# Altium schematic symbol library radxa_cm3s_io_board_v1510_Library.SchLib: 96 symbols (part 1 of 2)
Pins are listed as number, name and electrical type; pins without a type are passive.

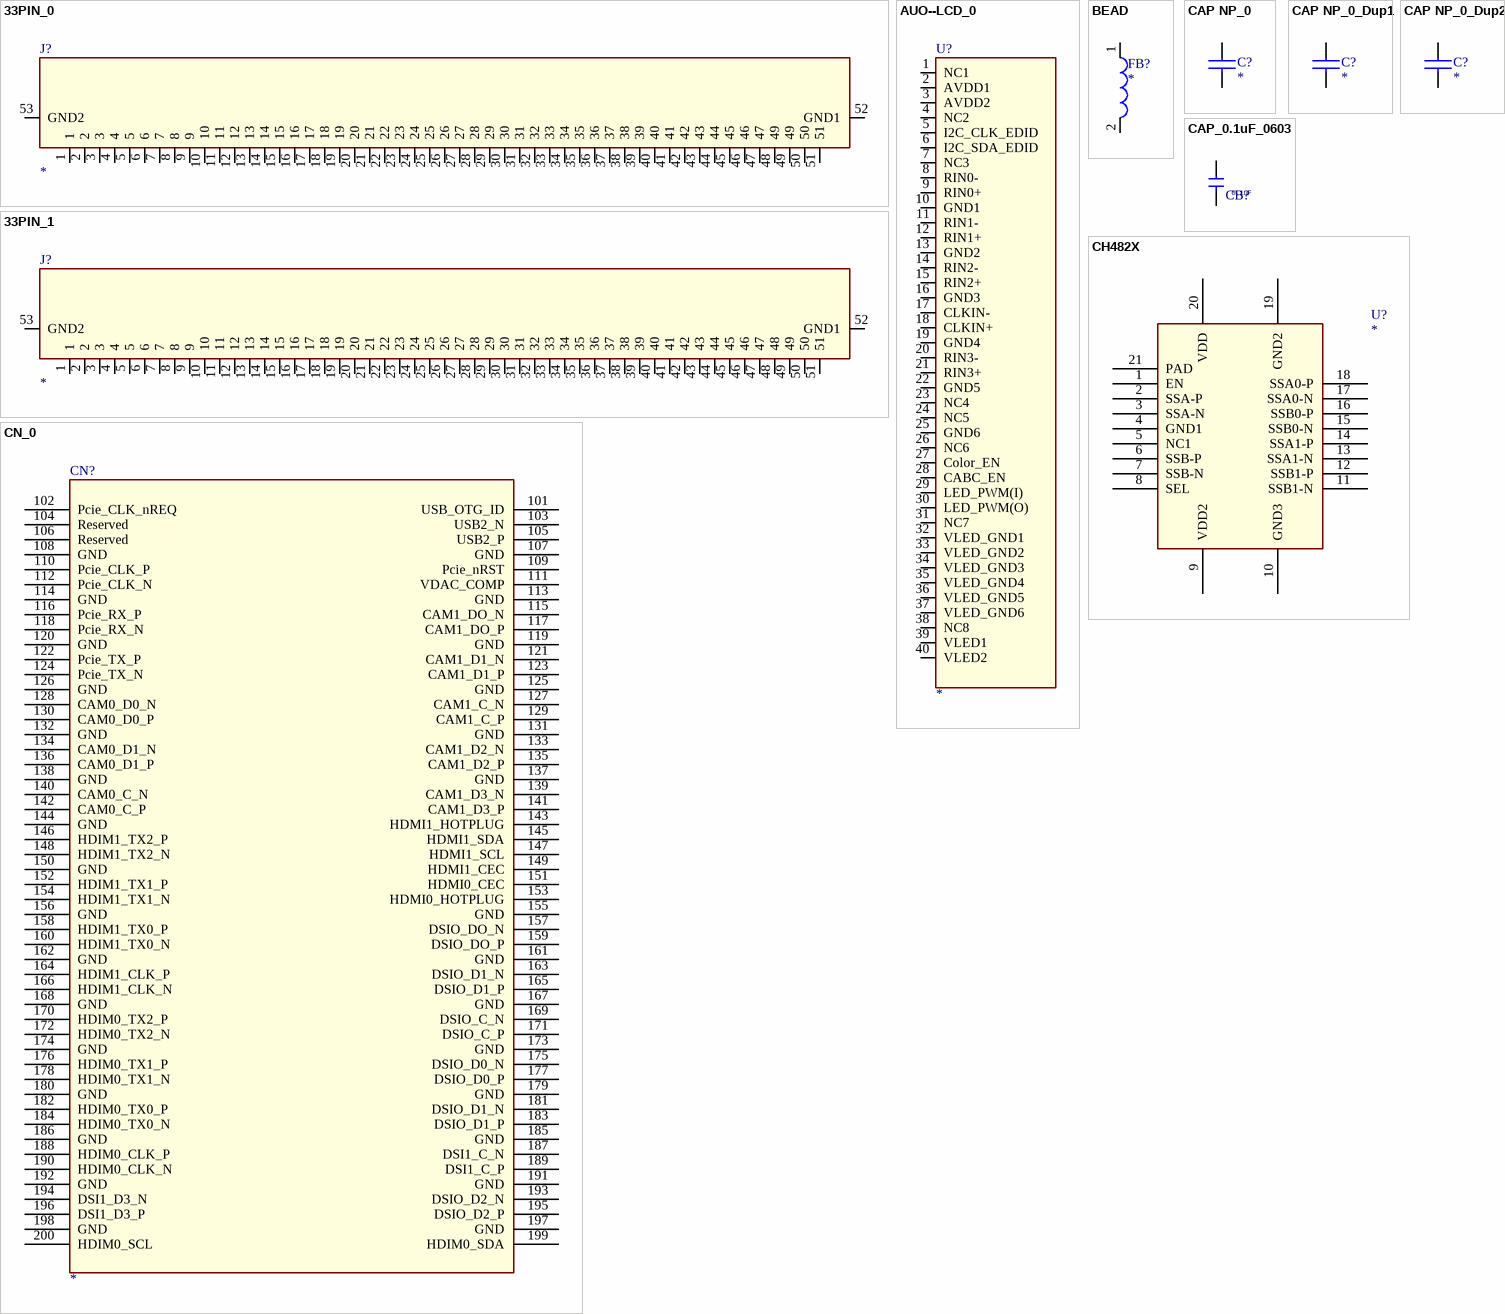
[diagram p0: symbols 33PIN_0 to CN_0]

## 33PIN_0
designator J?
footprint 33PIN
pins: 1, 2, 3, 4, 5, 6, 7, 8, 9, 10, 11, 12, 13, 14, 15, 16, 17, 18, 19, 20, 21, 22, 23, 24, 25, 26, 27, 28, 29, 30, 31, 32, 33, 34, 35, 36, 37, 38, 39, 40, 41, 42, 43, 44, 45, 46, 47, 48 49, 49, 50, 51, 52 GND1, 53 GND2

## 33PIN_1
designator J?
footprint 33PIN
pins: 1, 2, 3, 4, 5, 6, 7, 8, 9, 10, 11, 12, 13, 14, 15, 16, 17, 18, 19, 20, 21, 22, 23, 24, 25, 26, 27, 28, 29, 30, 31, 32, 33, 34, 35, 36, 37, 38, 39, 40, 41, 42, 43, 44, 45, 46, 47, 48, 49, 50, 51, 52 GND1, 53 GND2

## AUO--LCD_0
designator U?
pins: 1 NC1, 2 AVDD1, 3 AVDD2, 4 NC2, 5 I2C_CLK_EDID, 6 I2C_SDA_EDID, 7 NC3, 8 RIN0-, 9 RIN0+, 10 GND1, 11 RIN1-, 12 RIN1+, 13 GND2, 14 RIN2-, 15 RIN2+, 16 GND3, 17 CLKIN-, 18 CLKIN+, 19 GND4, 20 RIN3-, 21 RIN3+, 22 GND5, 23 NC4, 24 NC5, 25 GND6, 26 NC6, 27 Color_EN, 28 CABC_EN, 29 LED_PWM(I), 30 LED_PWM(O), 31 NC7, 32 VLED_GND1, 33 VLED_GND2, 34 VLED_GND3, 35 VLED_GND4, 36 VLED_GND5, 37 VLED_GND6, 38 NC8, 39 VLED1, 40 VLED2

## BEAD
designator FB?
pins: 1, 2

## CAP NP_0
designator C?
pins: 1, 2

## CAP NP_0_Dup1
designator C?
pins: 1, 2

## CAP NP_0_Dup2
designator C?
pins: 1, 2

## CAP_0.1uF_0603
designator CB?, comment 0.1uF
footprint C0603
pins: 1, 2

## CH482X
designator U?
footprint CH482X
pins: 1 EN, 2 SSA-P, 3 SSA-N, 4 GND1, 5 NC1, 6 SSB-P, 7 SSB-N, 8 SEL, 9 VDD2, 10 GND3, 11 SSB1-N, 12 SSB1-P, 13 SSA1-N, 14 SSA1-P, 15 SSB0-N, 16 SSB0-P, 17 SSA0-N, 18 SSA0-P, 19 GND2, 20 VDD, 21 PAD

## CN_0
designator CN?
pins: 101 USB_OTG_ID, 102 Pcie_CLK_nREQ, 103 USB2_N, 104 Reserved, 105 USB2_P, 106 Reserved, 107 GND, 108 GND, 109 Pcie_nRST, 110 Pcie_CLK_P, 111 VDAC_COMP, 112 Pcie_CLK_N, 113 GND, 114 GND, 115 CAM1_DO_N, 116 Pcie_RX_P, 117 CAM1_DO_P, 118 Pcie_RX_N, 119 GND, 120 GND, 121 CAM1_D1_N, 122 Pcie_TX_P, 123 CAM1_D1_P, 124 Pcie_TX_N, 125 GND, 126 GND, 127 CAM1_C_N, 128 CAM0_D0_N, 129 CAM1_C_P, 130 CAM0_D0_P, 131 GND, 132 GND, 133 CAM1_D2_N, 134 CAM0_D1_N, 135 CAM1_D2_P, 136 CAM0_D1_P, 137 GND, 138 GND, 139 CAM1_D3_N, 140 CAM0_C_N, 141 CAM1_D3_P, 142 CAM0_C_P, 143 HDMI1_HOTPLUG, 144 GND, 145 HDMI1_SDA, 146 HDIM1_TX2_P, 147 HDMI1_SCL, 148 HDIM1_TX2_N, 149 HDMI1_CEC, 150 GND, 151 HDMI0_CEC, 152 HDIM1_TX1_P, 153 HDMI0_HOTPLUG, 154 HDIM1_TX1_N, 155 GND, 156 GND, 157 DSIO_DO_N, 158 HDIM1_TX0_P, 159 DSIO_DO_P, 160 HDIM1_TX0_N, 161 GND, 162 GND, 163 DSIO_D1_N, 164 HDIM1_CLK_P, 165 DSIO_D1_P, 166 HDIM1_CLK_N, 167 GND, 168 GND, 169 DSIO_C_N, 170 HDIM0_TX2_P, 171 DSIO_C_P, 172 HDIM0_TX2_N, 173 GND, 174 GND, 175 DSIO_D0_N, 176 HDIM0_TX1_P, 177 DSIO_D0_P, 178 HDIM0_TX1_N, 179 GND, 180 GND, 181 DSIO_D1_N, 182 HDIM0_TX0_P, 183 DSIO_D1_P, 184 HDIM0_TX0_N, 185 GND, 186 GND, 187 DSI1_C_N, 188 HDIM0_CLK_P, 189 DSI1_C_P, 190 HDIM0_CLK_N, 191 GND, 192 GND, 193 DSIO_D2_N, 194 DSI1_D3_N, 195 DSIO_D2_P, 196 DSI1_D3_P, 197 GND, 198 GND, 199 HDIM0_SDA, 200 HDIM0_SCL

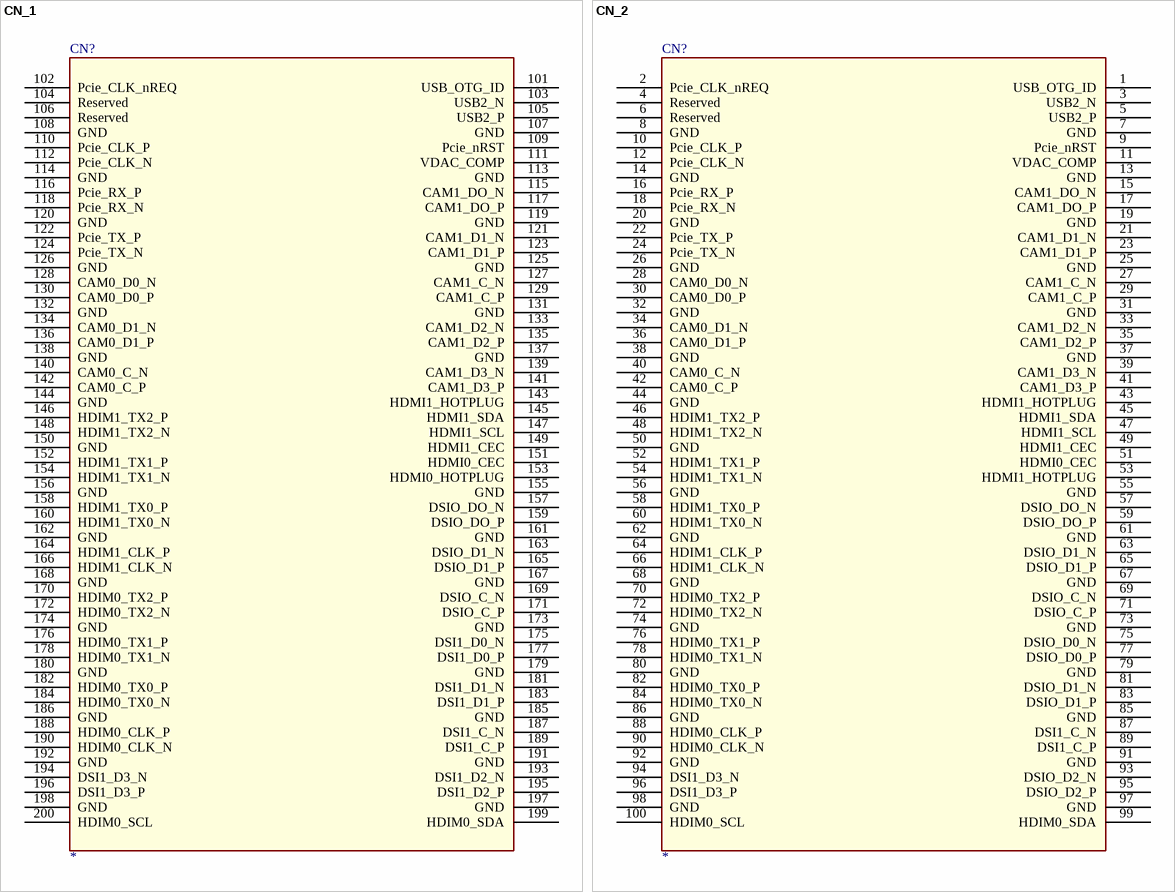
[diagram p1: symbols CN_1 to CN_2]

## CN_1
designator CN?
pins: 101 USB_OTG_ID, 102 Pcie_CLK_nREQ, 103 USB2_N, 104 Reserved, 105 USB2_P, 106 Reserved, 107 GND, 108 GND, 109 Pcie_nRST, 110 Pcie_CLK_P, 111 VDAC_COMP, 112 Pcie_CLK_N, 113 GND, 114 GND, 115 CAM1_DO_N, 116 Pcie_RX_P, 117 CAM1_DO_P, 118 Pcie_RX_N, 119 GND, 120 GND, 121 CAM1_D1_N, 122 Pcie_TX_P, 123 CAM1_D1_P, 124 Pcie_TX_N, 125 GND, 126 GND, 127 CAM1_C_N, 128 CAM0_D0_N, 129 CAM1_C_P, 130 CAM0_D0_P, 131 GND, 132 GND, 133 CAM1_D2_N, 134 CAM0_D1_N, 135 CAM1_D2_P, 136 CAM0_D1_P, 137 GND, 138 GND, 139 CAM1_D3_N, 140 CAM0_C_N, 141 CAM1_D3_P, 142 CAM0_C_P, 143 HDMI1_HOTPLUG, 144 GND, 145 HDMI1_SDA, 146 HDIM1_TX2_P, 147 HDMI1_SCL, 148 HDIM1_TX2_N, 149 HDMI1_CEC, 150 GND, 151 HDMI0_CEC, 152 HDIM1_TX1_P, 153 HDMI0_HOTPLUG, 154 HDIM1_TX1_N, 155 GND, 156 GND, 157 DSIO_DO_N, 158 HDIM1_TX0_P, 159 DSIO_DO_P, 160 HDIM1_TX0_N, 161 GND, 162 GND, 163 DSIO_D1_N, 164 HDIM1_CLK_P, 165 DSIO_D1_P, 166 HDIM1_CLK_N, 167 GND, 168 GND, 169 DSIO_C_N, 170 HDIM0_TX2_P, 171 DSIO_C_P, 172 HDIM0_TX2_N, 173 GND, 174 GND, 175 DSI1_D0_N, 176 HDIM0_TX1_P, 177 DSI1_D0_P, 178 HDIM0_TX1_N, 179 GND, 180 GND, 181 DSI1_D1_N, 182 HDIM0_TX0_P, 183 DSI1_D1_P, 184 HDIM0_TX0_N, 185 GND, 186 GND, 187 DSI1_C_N, 188 HDIM0_CLK_P, 189 DSI1_C_P, 190 HDIM0_CLK_N, 191 GND, 192 GND, 193 DSI1_D2_N, 194 DSI1_D3_N, 195 DSI1_D2_P, 196 DSI1_D3_P, 197 GND, 198 GND, 199 HDIM0_SDA, 200 HDIM0_SCL

## CN_2
designator CN?
pins: 1 USB_OTG_ID, 2 Pcie_CLK_nREQ, 3 USB2_N, 4 Reserved, 5 USB2_P, 6 Reserved, 7 GND, 8 GND, 9 Pcie_nRST, 10 Pcie_CLK_P, 11 VDAC_COMP, 12 Pcie_CLK_N, 13 GND, 14 GND, 15 CAM1_DO_N, 16 Pcie_RX_P, 17 CAM1_DO_P, 18 Pcie_RX_N, 19 GND, 20 GND, 21 CAM1_D1_N, 22 Pcie_TX_P, 23 CAM1_D1_P, 24 Pcie_TX_N, 25 GND, 26 GND, 27 CAM1_C_N, 28 CAM0_D0_N, 29 CAM1_C_P, 30 CAM0_D0_P, 31 GND, 32 GND, 33 CAM1_D2_N, 34 CAM0_D1_N, 35 CAM1_D2_P, 36 CAM0_D1_P, 37 GND, 38 GND, 39 CAM1_D3_N, 40 CAM0_C_N, 41 CAM1_D3_P, 42 CAM0_C_P, 43 HDMI1_HOTPLUG, 44 GND, 45 HDMI1_SDA, 46 HDIM1_TX2_P, 47 HDMI1_SCL, 48 HDIM1_TX2_N, 49 HDMI1_CEC, 50 GND, 51 HDMI0_CEC, 52 HDIM1_TX1_P, 53 HDMI1_HOTPLUG, 54 HDIM1_TX1_N, 55 GND, 56 GND, 57 DSIO_DO_N, 58 HDIM1_TX0_P, 59 DSIO_DO_P, 60 HDIM1_TX0_N, 61 GND, 62 GND, 63 DSIO_D1_N, 64 HDIM1_CLK_P, 65 DSIO_D1_P, 66 HDIM1_CLK_N, 67 GND, 68 GND, 69 DSIO_C_N, 70 HDIM0_TX2_P, 71 DSIO_C_P, 72 HDIM0_TX2_N, 73 GND, 74 GND, 75 DSIO_D0_N, 76 HDIM0_TX1_P, 77 DSIO_D0_P, 78 HDIM0_TX1_N, 79 GND, 80 GND, 81 DSIO_D1_N, 82 HDIM0_TX0_P, 83 DSIO_D1_P, 84 HDIM0_TX0_N, 85 GND, 86 GND, 87 DSI1_C_N, 88 HDIM0_CLK_P, 89 DSI1_C_P, 90 HDIM0_CLK_N, 91 GND, 92 GND, 93 DSIO_D2_N, 94 DSI1_D3_N, 95 DSIO_D2_P, 96 DSI1_D3_P, 97 GND, 98 GND, 99 HDIM0_SDA, 100 HDIM0_SCL

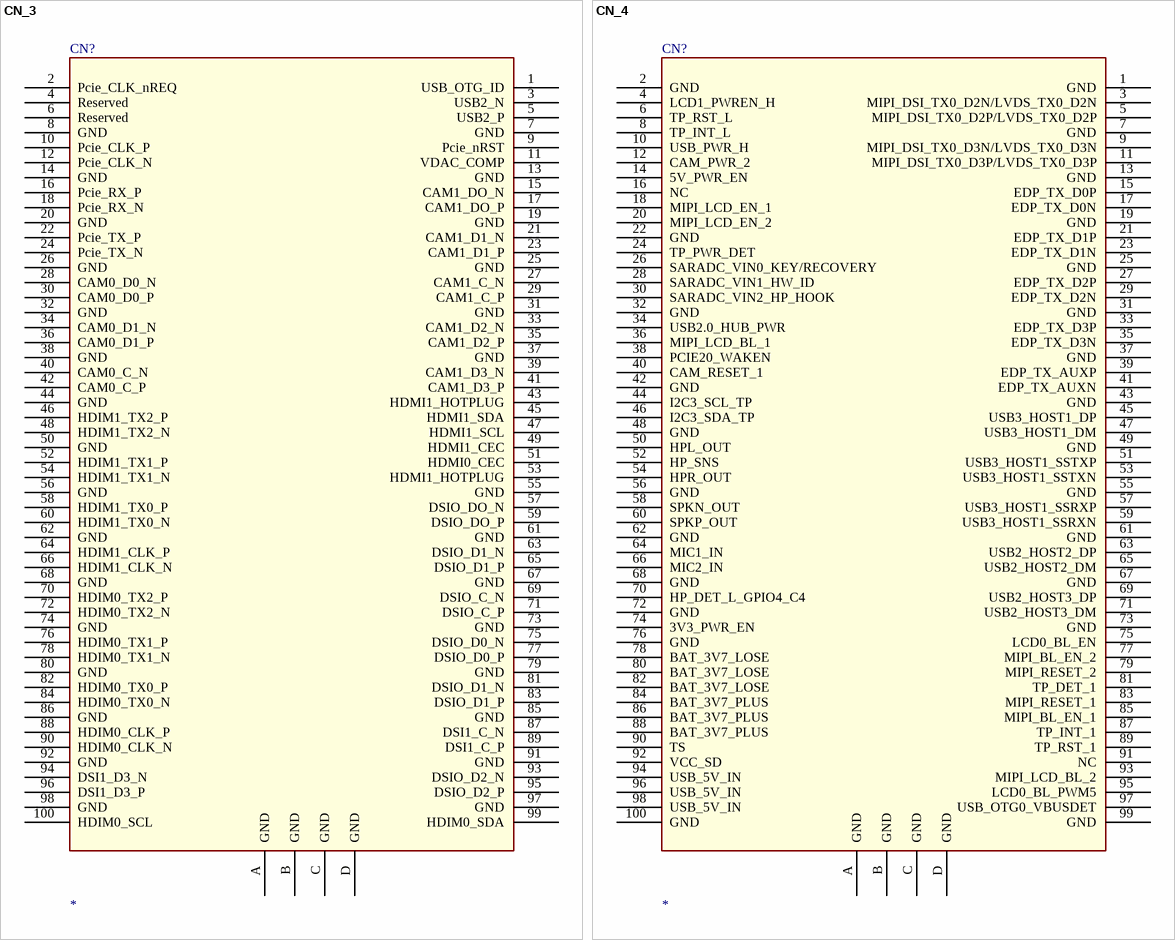
[diagram p2: symbols CN_3 to CN_4]

## CN_3
designator CN?
pins: 1 USB_OTG_ID, 2 Pcie_CLK_nREQ, 3 USB2_N, 4 Reserved, 5 USB2_P, 6 Reserved, 7 GND, 8 GND, 9 Pcie_nRST, 10 Pcie_CLK_P, 11 VDAC_COMP, 12 Pcie_CLK_N, 13 GND, 14 GND, 15 CAM1_DO_N, 16 Pcie_RX_P, 17 CAM1_DO_P, 18 Pcie_RX_N, 19 GND, 20 GND, 21 CAM1_D1_N, 22 Pcie_TX_P, 23 CAM1_D1_P, 24 Pcie_TX_N, 25 GND, 26 GND, 27 CAM1_C_N, 28 CAM0_D0_N, 29 CAM1_C_P, 30 CAM0_D0_P, 31 GND, 32 GND, 33 CAM1_D2_N, 34 CAM0_D1_N, 35 CAM1_D2_P, 36 CAM0_D1_P, 37 GND, 38 GND, 39 CAM1_D3_N, 40 CAM0_C_N, 41 CAM1_D3_P, 42 CAM0_C_P, 43 HDMI1_HOTPLUG, 44 GND, 45 HDMI1_SDA, 46 HDIM1_TX2_P, 47 HDMI1_SCL, 48 HDIM1_TX2_N, 49 HDMI1_CEC, 50 GND, 51 HDMI0_CEC, 52 HDIM1_TX1_P, 53 HDMI1_HOTPLUG, 54 HDIM1_TX1_N, 55 GND, 56 GND, 57 DSIO_DO_N, 58 HDIM1_TX0_P, 59 DSIO_DO_P, 60 HDIM1_TX0_N, 61 GND, 62 GND, 63 DSIO_D1_N, 64 HDIM1_CLK_P, 65 DSIO_D1_P, 66 HDIM1_CLK_N, 67 GND, 68 GND, 69 DSIO_C_N, 70 HDIM0_TX2_P, 71 DSIO_C_P, 72 HDIM0_TX2_N, 73 GND, 74 GND, 75 DSIO_D0_N, 76 HDIM0_TX1_P, 77 DSIO_D0_P, 78 HDIM0_TX1_N, 79 GND, 80 GND, 81 DSIO_D1_N, 82 HDIM0_TX0_P, 83 DSIO_D1_P, 84 HDIM0_TX0_N, 85 GND, 86 GND, 87 DSI1_C_N, 88 HDIM0_CLK_P, 89 DSI1_C_P, 90 HDIM0_CLK_N, 91 GND, 92 GND, 93 DSIO_D2_N, 94 DSI1_D3_N, 95 DSIO_D2_P, 96 DSI1_D3_P, 97 GND, 98 GND, 99 HDIM0_SDA, 100 HDIM0_SCL, A GND, B GND, C GND, D GND

## CN_4
designator CN?
pins: 1 GND, 2 GND, 3 MIPI_DSI_TX0_D2N/LVDS_TX0_D2N, 4 LCD1_PWREN_H, 5 MIPI_DSI_TX0_D2P/LVDS_TX0_D2P, 6 TP_RST_L, 7 GND, 8 TP_INT_L, 9 MIPI_DSI_TX0_D3N/LVDS_TX0_D3N, 10 USB_PWR_H, 11 MIPI_DSI_TX0_D3P/LVDS_TX0_D3P, 12 CAM_PWR_2, 13 GND, 14 5V_PWR_EN, 15 EDP_TX_D0P, 16 NC, 17 EDP_TX_D0N, 18 MIPI_LCD_EN_1, 19 GND, 20 MIPI_LCD_EN_2, 21 EDP_TX_D1P, 22 GND, 23 EDP_TX_D1N, 24 TP_PWR_DET, 25 GND, 26 SARADC_VIN0_KEY/RECOVERY, 27 EDP_TX_D2P, 28 SARADC_VIN1_HW_ID, 29 EDP_TX_D2N, 30 SARADC_VIN2_HP_HOOK, 31 GND, 32 GND, 33 EDP_TX_D3P, 34 USB2.0_HUB_PWR, 35 EDP_TX_D3N, 36 MIPI_LCD_BL_1, 37 GND, 38 PCIE20_WAKEN, 39 EDP_TX_AUXP, 40 CAM_RESET_1, 41 EDP_TX_AUXN, 42 GND, 43 GND, 44 I2C3_SCL_TP, 45 USB3_HOST1_DP, 46 I2C3_SDA_TP, 47 USB3_HOST1_DM, 48 GND, 49 GND, 50 HPL_OUT, 51 USB3_HOST1_SSTXP, 52 HP_SNS, 53 USB3_HOST1_SSTXN, 54 HPR_OUT, 55 GND, 56 GND, 57 USB3_HOST1_SSRXP, 58 SPKN_OUT, 59 USB3_HOST1_SSRXN, 60 SPKP_OUT, 61 GND, 62 GND, 63 USB2_HOST2_DP, 64 MIC1_IN, 65 USB2_HOST2_DM, 66 MIC2_IN, 67 GND, 68 GND, 69 USB2_HOST3_DP, 70 HP_DET_L_GPIO4_C4, 71 USB2_HOST3_DM, 72 GND, 73 GND, 74 3V3_PWR_EN, 75 LCD0_BL_EN, 76 GND, 77 MIPI_BL_EN_2, 78 BAT_3V7_LOSE, 79 MIPI_RESET_2, 80 BAT_3V7_LOSE, 81 TP_DET_1, 82 BAT_3V7_LOSE, 83 MIPI_RESET_1, 84 BAT_3V7_PLUS, 85 MIPI_BL_EN_1, 86 BAT_3V7_PLUS, 87 TP_INT_1, 88 BAT_3V7_PLUS, 89 TP_RST_1, 90 TS, 91 NC, 92 VCC_SD, 93 MIPI_LCD_BL_2, 94 USB_5V_IN, 95 LCD0_BL_PWM5, 96 USB_5V_IN, 97 USB_OTG0_VBUSDET, 98 USB_5V_IN, 99 GND, 100 GND, A GND, B GND, C GND, D GND

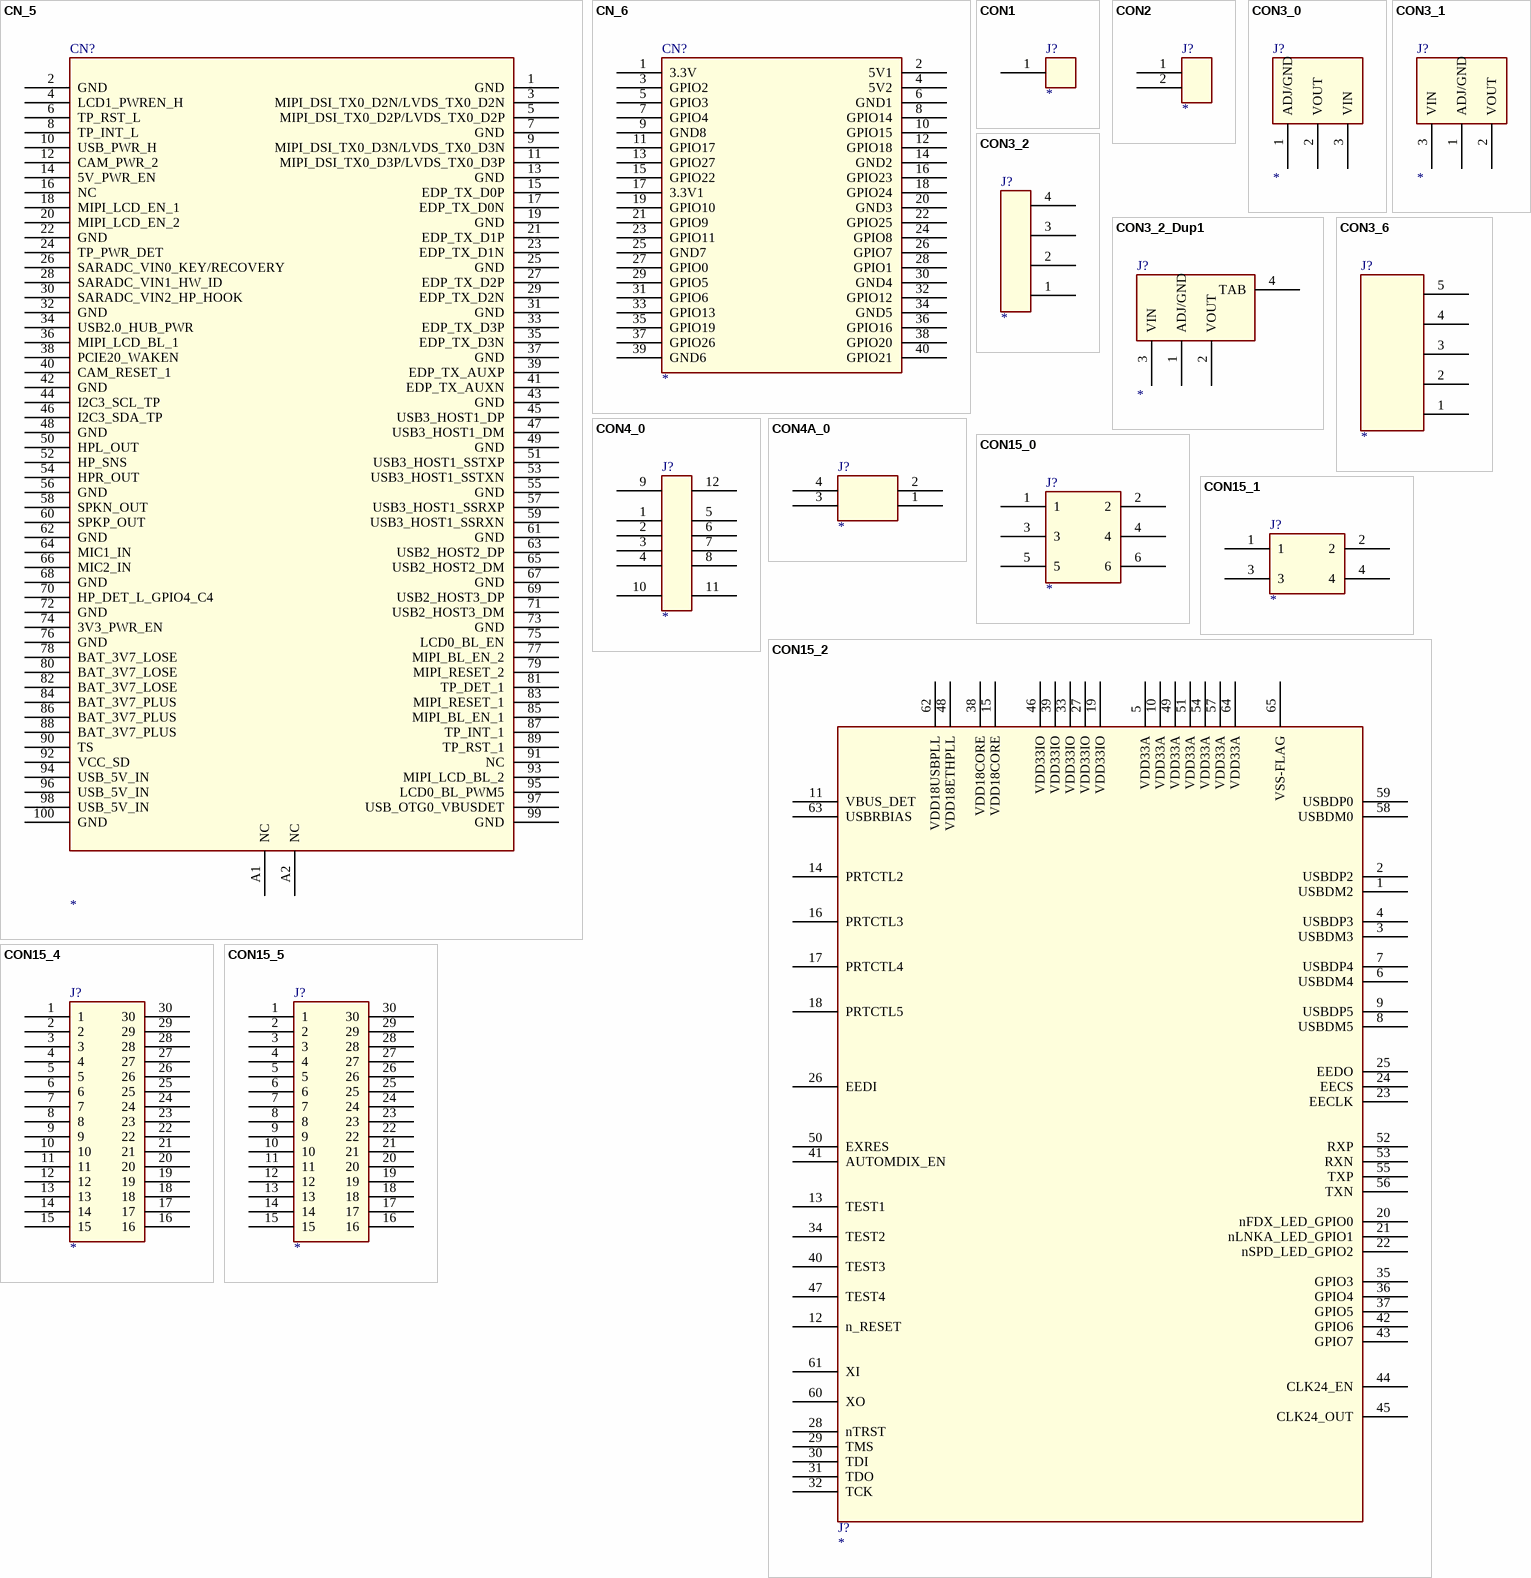
[diagram p3: symbols CN_5 to CON15_5]

## CN_5
designator CN?
pins: 1 GND, 2 GND, 3 MIPI_DSI_TX0_D2N/LVDS_TX0_D2N, 4 LCD1_PWREN_H, 5 MIPI_DSI_TX0_D2P/LVDS_TX0_D2P, 6 TP_RST_L, 7 GND, 8 TP_INT_L, 9 MIPI_DSI_TX0_D3N/LVDS_TX0_D3N, 10 USB_PWR_H, 11 MIPI_DSI_TX0_D3P/LVDS_TX0_D3P, 12 CAM_PWR_2, 13 GND, 14 5V_PWR_EN, 15 EDP_TX_D0P, 16 NC, 17 EDP_TX_D0N, 18 MIPI_LCD_EN_1, 19 GND, 20 MIPI_LCD_EN_2, 21 EDP_TX_D1P, 22 GND, 23 EDP_TX_D1N, 24 TP_PWR_DET, 25 GND, 26 SARADC_VIN0_KEY/RECOVERY, 27 EDP_TX_D2P, 28 SARADC_VIN1_HW_ID, 29 EDP_TX_D2N, 30 SARADC_VIN2_HP_HOOK, 31 GND, 32 GND, 33 EDP_TX_D3P, 34 USB2.0_HUB_PWR, 35 EDP_TX_D3N, 36 MIPI_LCD_BL_1, 37 GND, 38 PCIE20_WAKEN, 39 EDP_TX_AUXP, 40 CAM_RESET_1, 41 EDP_TX_AUXN, 42 GND, 43 GND, 44 I2C3_SCL_TP, 45 USB3_HOST1_DP, 46 I2C3_SDA_TP, 47 USB3_HOST1_DM, 48 GND, 49 GND, 50 HPL_OUT, 51 USB3_HOST1_SSTXP, 52 HP_SNS, 53 USB3_HOST1_SSTXN, 54 HPR_OUT, 55 GND, 56 GND, 57 USB3_HOST1_SSRXP, 58 SPKN_OUT, 59 USB3_HOST1_SSRXN, 60 SPKP_OUT, 61 GND, 62 GND, 63 USB2_HOST2_DP, 64 MIC1_IN, 65 USB2_HOST2_DM, 66 MIC2_IN, 67 GND, 68 GND, 69 USB2_HOST3_DP, 70 HP_DET_L_GPIO4_C4, 71 USB2_HOST3_DM, 72 GND, 73 GND, 74 3V3_PWR_EN, 75 LCD0_BL_EN, 76 GND, 77 MIPI_BL_EN_2, 78 BAT_3V7_LOSE, 79 MIPI_RESET_2, 80 BAT_3V7_LOSE, 81 TP_DET_1, 82 BAT_3V7_LOSE, 83 MIPI_RESET_1, 84 BAT_3V7_PLUS, 85 MIPI_BL_EN_1, 86 BAT_3V7_PLUS, 87 TP_INT_1, 88 BAT_3V7_PLUS, 89 TP_RST_1, 90 TS, 91 NC, 92 VCC_SD, 93 MIPI_LCD_BL_2, 94 USB_5V_IN, 95 LCD0_BL_PWM5, 96 USB_5V_IN, 97 USB_OTG0_VBUSDET, 98 USB_5V_IN, 99 GND, 100 GND, A1 NC, A2 NC

## CN_6
designator CN?
pins: 1 3.3V, 2 5V1, 3 GPIO2, 4 5V2, 5 GPIO3, 6 GND1, 7 GPIO4, 8 GPIO14, 9 GND8, 10 GPIO15, 11 GPIO17, 12 GPIO18, 13 GPIO27, 14 GND2, 15 GPIO22, 16 GPIO23, 17 3.3V1, 18 GPIO24, 19 GPIO10, 20 GND3, 21 GPIO9, 22 GPIO25, 23 GPIO11, 24 GPIO8, 25 GND7, 26 GPIO7, 27 GPIO0, 28 GPIO1, 29 GPIO5, 30 GND4, 31 GPIO6, 32 GPIO12, 33 GPIO13, 34 GND5, 35 GPIO19, 36 GPIO16, 37 GPIO26, 38 GPIO20, 39 GND6, 40 GPIO21

## CON1
designator J?
pins: 1

## CON2
designator J?
pins: 1, 2

## CON3_0
designator J?
pins: 1 ADJ/GND, 2 VOUT, 3 VIN

## CON3_1
designator J?
pins: 1 ADJ/GND, 2 VOUT, 3 VIN

## CON3_2
designator J?
pins: 1, 2, 3, 4

## CON3_2_Dup1
designator J?
pins: 1 ADJ/GND, 2 VOUT, 3 VIN, 4 TAB

## CON3_6
designator J?
pins: 1, 2, 3, 4, 5

## CON4_0
designator J?
pins: 1, 2, 3, 4, 5, 6, 7, 8, 9, 10, 11, 12

## CON4A_0
designator J?
pins: 1, 2, 3, 4

## CON15_0
designator J?
pins: 1, 2, 3, 4, 5, 6

## CON15_1
designator J?
pins: 1, 2, 3, 4

## CON15_2
designator J?
pins: 1 USBDM2, 2 USBDP2, 3 USBDM3, 4 USBDP3, 5 VDD33A, 6 USBDM4, 7 USBDP4, 8 USBDM5, 9 USBDP5, 10 VDD33A, 11 VBUS_DET, 12 n_RESET, 13 TEST1, 14 PRTCTL2, 15 VDD18CORE, 16 PRTCTL3, 17 PRTCTL4, 18 PRTCTL5, 19 VDD33IO, 20 nFDX_LED_GPIO0, 21 nLNKA_LED_GPIO1, 22 nSPD_LED_GPIO2, 23 EECLK, 24 EECS, 25 EEDO, 26 EEDI, 27 VDD33IO, 28 nTRST, 29 TMS, 30 TDI, 31 TDO, 32 TCK, 33 VDD33IO, 34 TEST2, 35 GPIO3, 36 GPIO4, 37 GPIO5, 38 VDD18CORE, 39 VDD33IO, 40 TEST3, 41 AUTOMDIX_EN, 42 GPIO6, 43 GPIO7, 44 CLK24_EN, 45 CLK24_OUT, 46 VDD33IO, 47 TEST4, 48 VDD18ETHPLL, 49 VDD33A, 50 EXRES, 51 VDD33A, 52 RXP, 53 RXN, 54 VDD33A, 55 TXP, 56 TXN, 57 VDD33A, 58 USBDM0, 59 USBDP0, 60 XO, 61 XI, 62 VDD18USBPLL, 63 USBRBIAS, 64 VDD33A, 65 VSS-FLAG

## CON15_4
designator J?
pins: 1, 2, 3, 4, 5, 6, 7, 8, 9, 10, 11, 12, 13, 14, 15, 16, 17, 18, 19, 20, 21, 22, 23, 24, 25, 26, 27, 28, 29, 30

## CON15_5
designator J?
pins: 1, 2, 3, 4, 5, 6, 7, 8, 9, 10, 11, 12, 13, 14, 15, 16, 17, 18, 19, 20, 21, 22, 23, 24, 25, 26, 27, 28, 29, 30

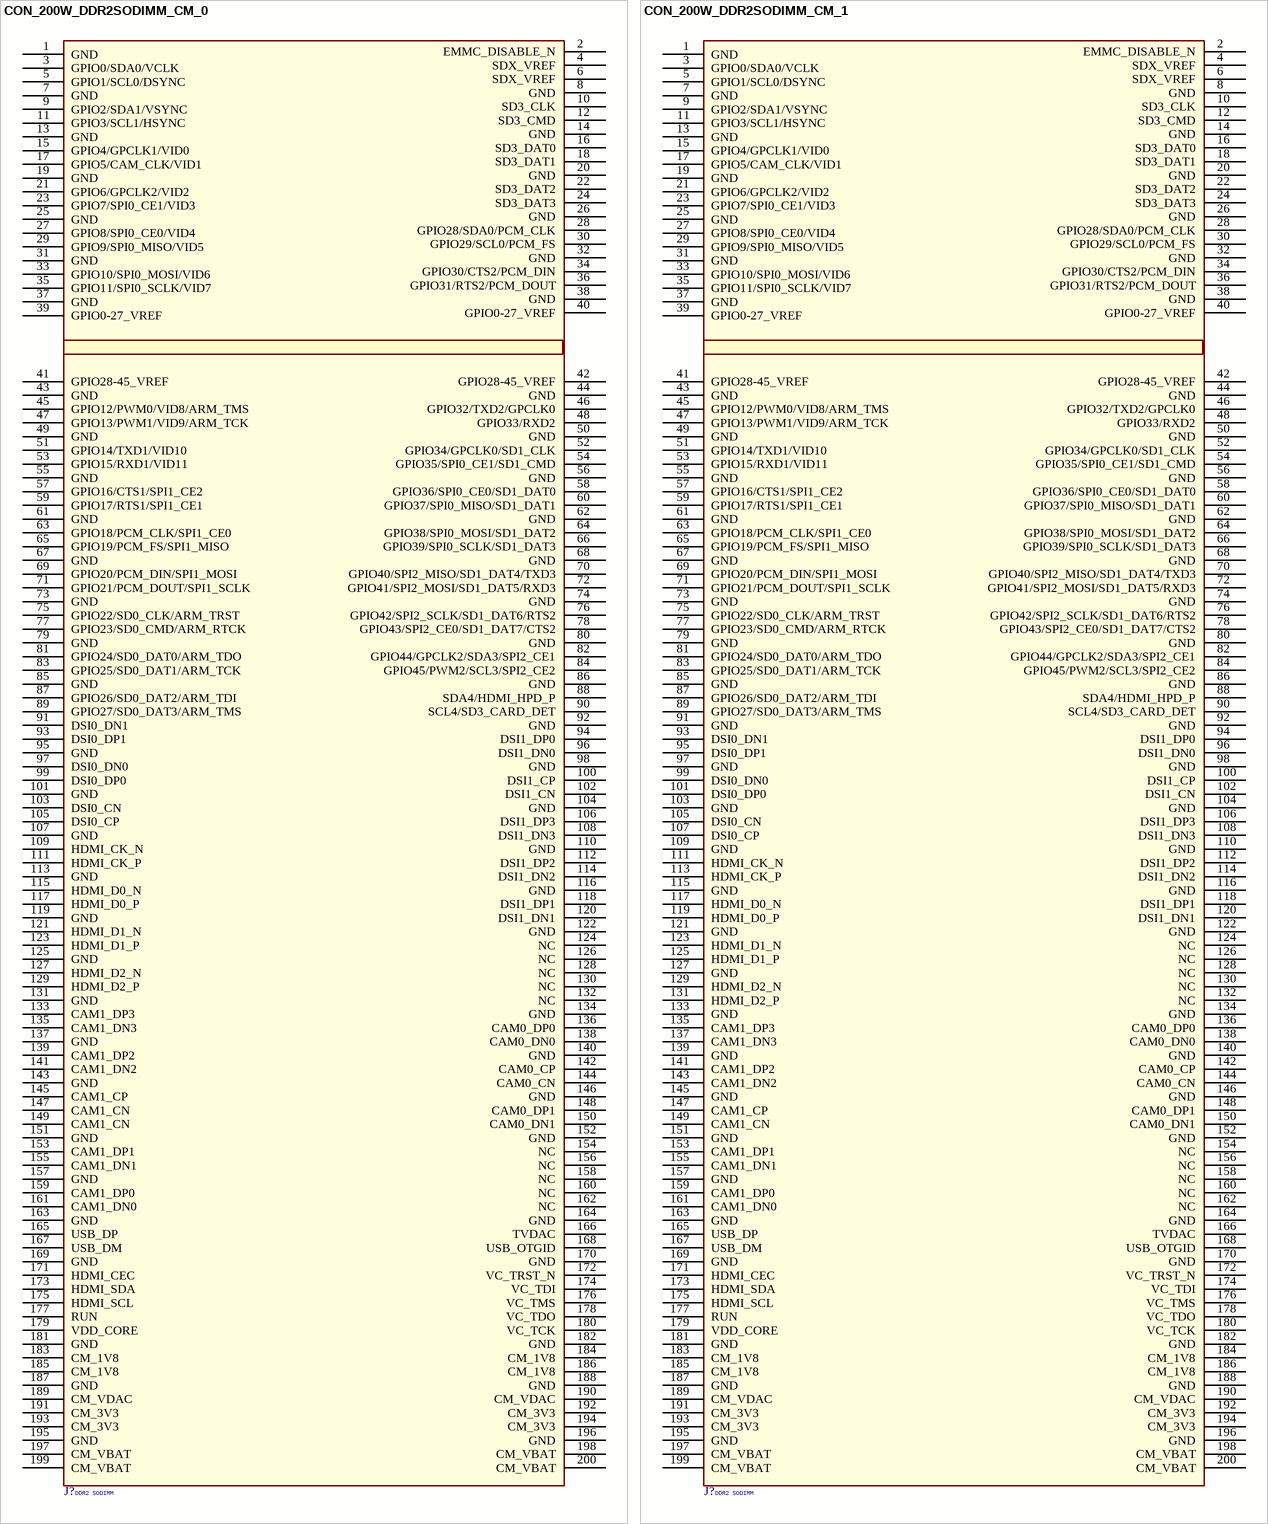
[diagram p4: symbols CON_200W_DDR2SODIMM_CM_0 to CON_200W_DDR2SODIMM_CM_1]

## CON_200W_DDR2SODIMM_CM_0
designator J?, comment DDR2 SODIMM
footprint FCI_10033853_CM
pins: 1 GND, 2 EMMC_DISABLE_N, 3 GPIO0/SDA0/VCLK, 4 SDX_VREF, 5 GPIO1/SCL0/DSYNC, 6 SDX_VREF, 7 GND, 8 GND, 9 GPIO2/SDA1/VSYNC, 10 SD3_CLK, 11 GPIO3/SCL1/HSYNC, 12 SD3_CMD, 13 GND, 14 GND, 15 GPIO4/GPCLK1/VID0, 16 SD3_DAT0, 17 GPIO5/CAM_CLK/VID1, 18 SD3_DAT1, 19 GND, 20 GND, 21 GPIO6/GPCLK2/VID2, 22 SD3_DAT2, 23 GPIO7/SPI0_CE1/VID3, 24 SD3_DAT3, 25 GND, 26 GND, 27 GPIO8/SPI0_CE0/VID4, 28 GPIO28/SDA0/PCM_CLK, 29 GPIO9/SPI0_MISO/VID5, 30 GPIO29/SCL0/PCM_FS, 31 GND, 32 GND, 33 GPIO10/SPI0_MOSI/VID6, 34 GPIO30/CTS2/PCM_DIN, 35 GPIO11/SPI0_SCLK/VID7, 36 GPIO31/RTS2/PCM_DOUT, 37 GND, 38 GND, 39 GPIO0-27_VREF, 40 GPIO0-27_VREF, 41 GPIO28-45_VREF, 42 GPIO28-45_VREF, 43 GND, 44 GND, 45 GPIO12/PWM0/VID8/ARM_TMS, 46 GPIO32/TXD2/GPCLK0, 47 GPIO13/PWM1/VID9/ARM_TCK, 48 GPIO33/RXD2, 49 GND, 50 GND, 51 GPIO14/TXD1/VID10, 52 GPIO34/GPCLK0/SD1_CLK, 53 GPIO15/RXD1/VID11, 54 GPIO35/SPI0_CE1/SD1_CMD, 55 GND, 56 GND, 57 GPIO16/CTS1/SPI1_CE2, 58 GPIO36/SPI0_CE0/SD1_DAT0, 59 GPIO17/RTS1/SPI1_CE1, 60 GPIO37/SPI0_MISO/SD1_DAT1, 61 GND, 62 GND, 63 GPIO18/PCM_CLK/SPI1_CE0, 64 GPIO38/SPI0_MOSI/SD1_DAT2, 65 GPIO19/PCM_FS/SPI1_MISO, 66 GPIO39/SPI0_SCLK/SD1_DAT3, 67 GND, 68 GND, 69 GPIO20/PCM_DIN/SPI1_MOSI, 70 GPIO40/SPI2_MISO/SD1_DAT4/TXD3, 71 GPIO21/PCM_DOUT/SPI1_SCLK, 72 GPIO41/SPI2_MOSI/SD1_DAT5/RXD3, 73 GND, 74 GND, 75 GPIO22/SD0_CLK/ARM_TRST, 76 GPIO42/SPI2_SCLK/SD1_DAT6/RTS2, 77 GPIO23/SD0_CMD/ARM_RTCK, 78 GPIO43/SPI2_CE0/SD1_DAT7/CTS2, 79 GND, 80 GND, 81 GPIO24/SD0_DAT0/ARM_TDO, 82 GPIO44/GPCLK2/SDA3/SPI2_CE1, 83 GPIO25/SD0_DAT1/ARM_TCK, 84 GPIO45/PWM2/SCL3/SPI2_CE2, 85 GND, 86 GND, 87 GPIO26/SD0_DAT2/ARM_TDI, 88 SDA4/HDMI_HPD_P, 89 GPIO27/SD0_DAT3/ARM_TMS, 90 SCL4/SD3_CARD_DET, 91 DSI0_DN1, 92 GND, 93 DSI0_DP1, 94 DSI1_DP0, 95 GND, 96 DSI1_DN0, 97 DSI0_DN0, 98 GND, 99 DSI0_DP0, 100 DSI1_CP, 101 GND, 102 DSI1_CN, 103 DSI0_CN, 104 GND, 105 DSI0_CP, 106 DSI1_DP3, 107 GND, 108 DSI1_DN3, 109 HDMI_CK_N, 110 GND, 111 HDMI_CK_P, 112 DSI1_DP2, 113 GND, 114 DSI1_DN2, 115 HDMI_D0_N, 116 GND, 117 HDMI_D0_P, 118 DSI1_DP1, 119 GND, 120 DSI1_DN1, 121 HDMI_D1_N, 122 GND, 123 HDMI_D1_P, 124 NC, 125 GND, 126 NC, 127 HDMI_D2_N, 128 NC, 129 HDMI_D2_P, 130 NC, 131 GND, 132 NC, 133 CAM1_DP3, 134 GND, 135 CAM1_DN3, 136 CAM0_DP0, 137 GND, 138 CAM0_DN0, 139 CAM1_DP2, 140 GND, 141 CAM1_DN2, 142 CAM0_CP, 143 GND, 144 CAM0_CN, 145 CAM1_CP, 146 GND, 147 CAM1_CN, 148 CAM0_DP1, 149 CAM1_CN, 150 CAM0_DN1, 151 GND, 152 GND, 153 CAM1_DP1, 154 NC, 155 CAM1_DN1, 156 NC, 157 GND, 158 NC, 159 CAM1_DP0, 160 NC, 161 CAM1_DN0, 162 NC, 163 GND, 164 GND, 165 USB_DP, 166 TVDAC, 167 USB_DM, 168 USB_OTGID, 169 GND, 170 GND, 171 HDMI_CEC, 172 VC_TRST_N, 173 HDMI_SDA, 174 VC_TDI, 175 HDMI_SCL, 176 VC_TMS, 177 RUN, 178 VC_TDO, 179 VDD_CORE, 180 VC_TCK, 181 GND, 182 GND, 183 CM_1V8, 184 CM_1V8, 185 CM_1V8, 186 CM_1V8, 187 GND, 188 GND, 189 CM_VDAC, 190 CM_VDAC, 191 CM_3V3, 192 CM_3V3, 193 CM_3V3, 194 CM_3V3, 195 GND, 196 GND, 197 CM_VBAT, 198 CM_VBAT, 199 CM_VBAT, 200 CM_VBAT

## CON_200W_DDR2SODIMM_CM_1
designator J?, comment DDR2 SODIMM
footprint FCI_10033853_CM
pins: 1 GND, 2 EMMC_DISABLE_N, 3 GPIO0/SDA0/VCLK, 4 SDX_VREF, 5 GPIO1/SCL0/DSYNC, 6 SDX_VREF, 7 GND, 8 GND, 9 GPIO2/SDA1/VSYNC, 10 SD3_CLK, 11 GPIO3/SCL1/HSYNC, 12 SD3_CMD, 13 GND, 14 GND, 15 GPIO4/GPCLK1/VID0, 16 SD3_DAT0, 17 GPIO5/CAM_CLK/VID1, 18 SD3_DAT1, 19 GND, 20 GND, 21 GPIO6/GPCLK2/VID2, 22 SD3_DAT2, 23 GPIO7/SPI0_CE1/VID3, 24 SD3_DAT3, 25 GND, 26 GND, 27 GPIO8/SPI0_CE0/VID4, 28 GPIO28/SDA0/PCM_CLK, 29 GPIO9/SPI0_MISO/VID5, 30 GPIO29/SCL0/PCM_FS, 31 GND, 32 GND, 33 GPIO10/SPI0_MOSI/VID6, 34 GPIO30/CTS2/PCM_DIN, 35 GPIO11/SPI0_SCLK/VID7, 36 GPIO31/RTS2/PCM_DOUT, 37 GND, 38 GND, 39 GPIO0-27_VREF, 40 GPIO0-27_VREF, 41 GPIO28-45_VREF, 42 GPIO28-45_VREF, 43 GND, 44 GND, 45 GPIO12/PWM0/VID8/ARM_TMS, 46 GPIO32/TXD2/GPCLK0, 47 GPIO13/PWM1/VID9/ARM_TCK, 48 GPIO33/RXD2, 49 GND, 50 GND, 51 GPIO14/TXD1/VID10, 52 GPIO34/GPCLK0/SD1_CLK, 53 GPIO15/RXD1/VID11, 54 GPIO35/SPI0_CE1/SD1_CMD, 55 GND, 56 GND, 57 GPIO16/CTS1/SPI1_CE2, 58 GPIO36/SPI0_CE0/SD1_DAT0, 59 GPIO17/RTS1/SPI1_CE1, 60 GPIO37/SPI0_MISO/SD1_DAT1, 61 GND, 62 GND, 63 GPIO18/PCM_CLK/SPI1_CE0, 64 GPIO38/SPI0_MOSI/SD1_DAT2, 65 GPIO19/PCM_FS/SPI1_MISO, 66 GPIO39/SPI0_SCLK/SD1_DAT3, 67 GND, 68 GND, 69 GPIO20/PCM_DIN/SPI1_MOSI, 70 GPIO40/SPI2_MISO/SD1_DAT4/TXD3, 71 GPIO21/PCM_DOUT/SPI1_SCLK, 72 GPIO41/SPI2_MOSI/SD1_DAT5/RXD3, 73 GND, 74 GND, 75 GPIO22/SD0_CLK/ARM_TRST, 76 GPIO42/SPI2_SCLK/SD1_DAT6/RTS2, 77 GPIO23/SD0_CMD/ARM_RTCK, 78 GPIO43/SPI2_CE0/SD1_DAT7/CTS2, 79 GND, 80 GND, 81 GPIO24/SD0_DAT0/ARM_TDO, 82 GPIO44/GPCLK2/SDA3/SPI2_CE1, 83 GPIO25/SD0_DAT1/ARM_TCK, 84 GPIO45/PWM2/SCL3/SPI2_CE2, 85 GND, 86 GND, 87 GPIO26/SD0_DAT2/ARM_TDI, 88 SDA4/HDMI_HPD_P, 89 GPIO27/SD0_DAT3/ARM_TMS, 90 SCL4/SD3_CARD_DET, 91 GND, 92 GND, 93 DSI0_DN1, 94 DSI1_DP0, 95 DSI0_DP1, 96 DSI1_DN0, 97 GND, 98 GND, 99 DSI0_DN0, 100 DSI1_CP, 101 DSI0_DP0, 102 DSI1_CN, 103 GND, 104 GND, 105 DSI0_CN, 106 DSI1_DP3, 107 DSI0_CP, 108 DSI1_DN3, 109 GND, 110 GND, 111 HDMI_CK_N, 112 DSI1_DP2, 113 HDMI_CK_P, 114 DSI1_DN2, 115 GND, 116 GND, 117 HDMI_D0_N, 118 DSI1_DP1, 119 HDMI_D0_P, 120 DSI1_DN1, 121 GND, 122 GND, 123 HDMI_D1_N, 124 NC, 125 HDMI_D1_P, 126 NC, 127 GND, 128 NC, 129 HDMI_D2_N, 130 NC, 131 HDMI_D2_P, 132 NC, 133 GND, 134 GND, 135 CAM1_DP3, 136 CAM0_DP0, 137 CAM1_DN3, 138 CAM0_DN0, 139 GND, 140 GND, 141 CAM1_DP2, 142 CAM0_CP, 143 CAM1_DN2, 144 CAM0_CN, 145 GND, 146 GND, 147 CAM1_CP, 148 CAM0_DP1, 149 CAM1_CN, 150 CAM0_DN1, 151 GND, 152 GND, 153 CAM1_DP1, 154 NC, 155 CAM1_DN1, 156 NC, 157 GND, 158 NC, 159 CAM1_DP0, 160 NC, 161 CAM1_DN0, 162 NC, 163 GND, 164 GND, 165 USB_DP, 166 TVDAC, 167 USB_DM, 168 USB_OTGID, 169 GND, 170 GND, 171 HDMI_CEC, 172 VC_TRST_N, 173 HDMI_SDA, 174 VC_TDI, 175 HDMI_SCL, 176 VC_TMS, 177 RUN, 178 VC_TDO, 179 VDD_CORE, 180 VC_TCK, 181 GND, 182 GND, 183 CM_1V8, 184 CM_1V8, 185 CM_1V8, 186 CM_1V8, 187 GND, 188 GND, 189 CM_VDAC, 190 CM_VDAC, 191 CM_3V3, 192 CM_3V3, 193 CM_3V3, 194 CM_3V3, 195 GND, 196 GND, 197 CM_VBAT, 198 CM_VBAT, 199 CM_VBAT, 200 CM_VBAT

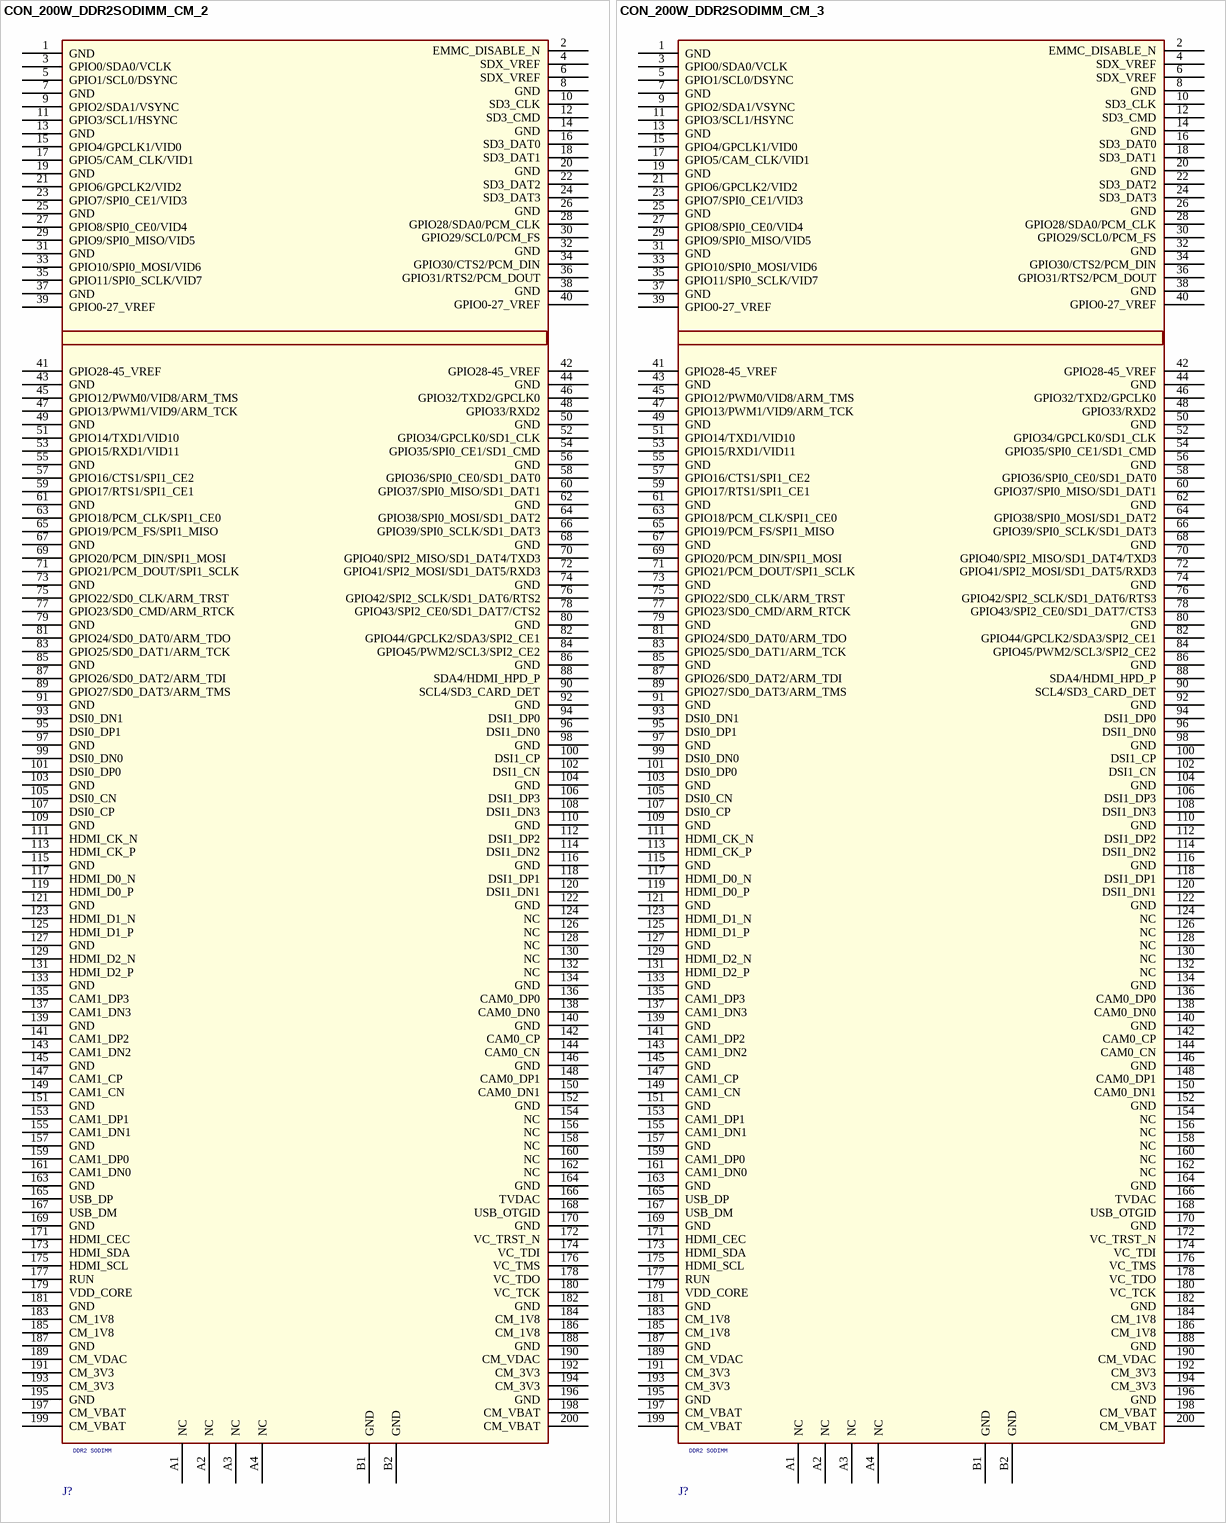
[diagram p5: symbols CON_200W_DDR2SODIMM_CM_2 to CON_200W_DDR2SODIMM_CM_3]

## CON_200W_DDR2SODIMM_CM_2
designator J?, comment DDR2 SODIMM
footprint FCI_10033853_CM
pins: 1 GND, 2 EMMC_DISABLE_N, 3 GPIO0/SDA0/VCLK, 4 SDX_VREF, 5 GPIO1/SCL0/DSYNC, 6 SDX_VREF, 7 GND, 8 GND, 9 GPIO2/SDA1/VSYNC, 10 SD3_CLK, 11 GPIO3/SCL1/HSYNC, 12 SD3_CMD, 13 GND, 14 GND, 15 GPIO4/GPCLK1/VID0, 16 SD3_DAT0, 17 GPIO5/CAM_CLK/VID1, 18 SD3_DAT1, 19 GND, 20 GND, 21 GPIO6/GPCLK2/VID2, 22 SD3_DAT2, 23 GPIO7/SPI0_CE1/VID3, 24 SD3_DAT3, 25 GND, 26 GND, 27 GPIO8/SPI0_CE0/VID4, 28 GPIO28/SDA0/PCM_CLK, 29 GPIO9/SPI0_MISO/VID5, 30 GPIO29/SCL0/PCM_FS, 31 GND, 32 GND, 33 GPIO10/SPI0_MOSI/VID6, 34 GPIO30/CTS2/PCM_DIN, 35 GPIO11/SPI0_SCLK/VID7, 36 GPIO31/RTS2/PCM_DOUT, 37 GND, 38 GND, 39 GPIO0-27_VREF, 40 GPIO0-27_VREF, 41 GPIO28-45_VREF, 42 GPIO28-45_VREF, 43 GND, 44 GND, 45 GPIO12/PWM0/VID8/ARM_TMS, 46 GPIO32/TXD2/GPCLK0, 47 GPIO13/PWM1/VID9/ARM_TCK, 48 GPIO33/RXD2, 49 GND, 50 GND, 51 GPIO14/TXD1/VID10, 52 GPIO34/GPCLK0/SD1_CLK, 53 GPIO15/RXD1/VID11, 54 GPIO35/SPI0_CE1/SD1_CMD, 55 GND, 56 GND, 57 GPIO16/CTS1/SPI1_CE2, 58 GPIO36/SPI0_CE0/SD1_DAT0, 59 GPIO17/RTS1/SPI1_CE1, 60 GPIO37/SPI0_MISO/SD1_DAT1, 61 GND, 62 GND, 63 GPIO18/PCM_CLK/SPI1_CE0, 64 GPIO38/SPI0_MOSI/SD1_DAT2, 65 GPIO19/PCM_FS/SPI1_MISO, 66 GPIO39/SPI0_SCLK/SD1_DAT3, 67 GND, 68 GND, 69 GPIO20/PCM_DIN/SPI1_MOSI, 70 GPIO40/SPI2_MISO/SD1_DAT4/TXD3, 71 GPIO21/PCM_DOUT/SPI1_SCLK, 72 GPIO41/SPI2_MOSI/SD1_DAT5/RXD3, 73 GND, 74 GND, 75 GPIO22/SD0_CLK/ARM_TRST, 76 GPIO42/SPI2_SCLK/SD1_DAT6/RTS2, 77 GPIO23/SD0_CMD/ARM_RTCK, 78 GPIO43/SPI2_CE0/SD1_DAT7/CTS2, 79 GND, 80 GND, 81 GPIO24/SD0_DAT0/ARM_TDO, 82 GPIO44/GPCLK2/SDA3/SPI2_CE1, 83 GPIO25/SD0_DAT1/ARM_TCK, 84 GPIO45/PWM2/SCL3/SPI2_CE2, 85 GND, 86 GND, 87 GPIO26/SD0_DAT2/ARM_TDI, 88 SDA4/HDMI_HPD_P, 89 GPIO27/SD0_DAT3/ARM_TMS, 90 SCL4/SD3_CARD_DET, 91 GND, 92 GND, 93 DSI0_DN1, 94 DSI1_DP0, 95 DSI0_DP1, 96 DSI1_DN0, 97 GND, 98 GND, 99 DSI0_DN0, 100 DSI1_CP, 101 DSI0_DP0, 102 DSI1_CN, 103 GND, 104 GND, 105 DSI0_CN, 106 DSI1_DP3, 107 DSI0_CP, 108 DSI1_DN3, 109 GND, 110 GND, 111 HDMI_CK_N, 112 DSI1_DP2, 113 HDMI_CK_P, 114 DSI1_DN2, 115 GND, 116 GND, 117 HDMI_D0_N, 118 DSI1_DP1, 119 HDMI_D0_P, 120 DSI1_DN1, 121 GND, 122 GND, 123 HDMI_D1_N, 124 NC, 125 HDMI_D1_P, 126 NC, 127 GND, 128 NC, 129 HDMI_D2_N, 130 NC, 131 HDMI_D2_P, 132 NC, 133 GND, 134 GND, 135 CAM1_DP3, 136 CAM0_DP0, 137 CAM1_DN3, 138 CAM0_DN0, 139 GND, 140 GND, 141 CAM1_DP2, 142 CAM0_CP, 143 CAM1_DN2, 144 CAM0_CN, 145 GND, 146 GND, 147 CAM1_CP, 148 CAM0_DP1, 149 CAM1_CN, 150 CAM0_DN1, 151 GND, 152 GND, 153 CAM1_DP1, 154 NC, 155 CAM1_DN1, 156 NC, 157 GND, 158 NC, 159 CAM1_DP0, 160 NC, 161 CAM1_DN0, 162 NC, 163 GND, 164 GND, 165 USB_DP, 166 TVDAC, 167 USB_DM, 168 USB_OTGID, 169 GND, 170 GND, 171 HDMI_CEC, 172 VC_TRST_N, 173 HDMI_SDA, 174 VC_TDI, 175 HDMI_SCL, 176 VC_TMS, 177 RUN, 178 VC_TDO, 179 VDD_CORE, 180 VC_TCK, 181 GND, 182 GND, 183 CM_1V8, 184 CM_1V8, 185 CM_1V8, 186 CM_1V8, 187 GND, 188 GND, 189 CM_VDAC, 190 CM_VDAC, 191 CM_3V3, 192 CM_3V3, 193 CM_3V3, 194 CM_3V3, 195 GND, 196 GND, 197 CM_VBAT, 198 CM_VBAT, 199 CM_VBAT, 200 CM_VBAT, A1 NC, A2 NC, A3 NC, A4 NC, B1 GND, B2 GND

## CON_200W_DDR2SODIMM_CM_3
designator J?, comment DDR2 SODIMM
footprint FCI_10033853_CM
pins: 1 GND, 2 EMMC_DISABLE_N, 3 GPIO0/SDA0/VCLK, 4 SDX_VREF, 5 GPIO1/SCL0/DSYNC, 6 SDX_VREF, 7 GND, 8 GND, 9 GPIO2/SDA1/VSYNC, 10 SD3_CLK, 11 GPIO3/SCL1/HSYNC, 12 SD3_CMD, 13 GND, 14 GND, 15 GPIO4/GPCLK1/VID0, 16 SD3_DAT0, 17 GPIO5/CAM_CLK/VID1, 18 SD3_DAT1, 19 GND, 20 GND, 21 GPIO6/GPCLK2/VID2, 22 SD3_DAT2, 23 GPIO7/SPI0_CE1/VID3, 24 SD3_DAT3, 25 GND, 26 GND, 27 GPIO8/SPI0_CE0/VID4, 28 GPIO28/SDA0/PCM_CLK, 29 GPIO9/SPI0_MISO/VID5, 30 GPIO29/SCL0/PCM_FS, 31 GND, 32 GND, 33 GPIO10/SPI0_MOSI/VID6, 34 GPIO30/CTS2/PCM_DIN, 35 GPIO11/SPI0_SCLK/VID7, 36 GPIO31/RTS2/PCM_DOUT, 37 GND, 38 GND, 39 GPIO0-27_VREF, 40 GPIO0-27_VREF, 41 GPIO28-45_VREF, 42 GPIO28-45_VREF, 43 GND, 44 GND, 45 GPIO12/PWM0/VID8/ARM_TMS, 46 GPIO32/TXD2/GPCLK0, 47 GPIO13/PWM1/VID9/ARM_TCK, 48 GPIO33/RXD2, 49 GND, 50 GND, 51 GPIO14/TXD1/VID10, 52 GPIO34/GPCLK0/SD1_CLK, 53 GPIO15/RXD1/VID11, 54 GPIO35/SPI0_CE1/SD1_CMD, 55 GND, 56 GND, 57 GPIO16/CTS1/SPI1_CE2, 58 GPIO36/SPI0_CE0/SD1_DAT0, 59 GPIO17/RTS1/SPI1_CE1, 60 GPIO37/SPI0_MISO/SD1_DAT1, 61 GND, 62 GND, 63 GPIO18/PCM_CLK/SPI1_CE0, 64 GPIO38/SPI0_MOSI/SD1_DAT2, 65 GPIO19/PCM_FS/SPI1_MISO, 66 GPIO39/SPI0_SCLK/SD1_DAT3, 67 GND, 68 GND, 69 GPIO20/PCM_DIN/SPI1_MOSI, 70 GPIO40/SPI2_MISO/SD1_DAT4/TXD3, 71 GPIO21/PCM_DOUT/SPI1_SCLK, 72 GPIO41/SPI2_MOSI/SD1_DAT5/RXD3, 73 GND, 74 GND, 75 GPIO22/SD0_CLK/ARM_TRST, 76 GPIO42/SPI2_SCLK/SD1_DAT6/RTS3, 77 GPIO23/SD0_CMD/ARM_RTCK, 78 GPIO43/SPI2_CE0/SD1_DAT7/CTS3, 79 GND, 80 GND, 81 GPIO24/SD0_DAT0/ARM_TDO, 82 GPIO44/GPCLK2/SDA3/SPI2_CE1, 83 GPIO25/SD0_DAT1/ARM_TCK, 84 GPIO45/PWM2/SCL3/SPI2_CE2, 85 GND, 86 GND, 87 GPIO26/SD0_DAT2/ARM_TDI, 88 SDA4/HDMI_HPD_P, 89 GPIO27/SD0_DAT3/ARM_TMS, 90 SCL4/SD3_CARD_DET, 91 GND, 92 GND, 93 DSI0_DN1, 94 DSI1_DP0, 95 DSI0_DP1, 96 DSI1_DN0, 97 GND, 98 GND, 99 DSI0_DN0, 100 DSI1_CP, 101 DSI0_DP0, 102 DSI1_CN, 103 GND, 104 GND, 105 DSI0_CN, 106 DSI1_DP3, 107 DSI0_CP, 108 DSI1_DN3, 109 GND, 110 GND, 111 HDMI_CK_N, 112 DSI1_DP2, 113 HDMI_CK_P, 114 DSI1_DN2, 115 GND, 116 GND, 117 HDMI_D0_N, 118 DSI1_DP1, 119 HDMI_D0_P, 120 DSI1_DN1, 121 GND, 122 GND, 123 HDMI_D1_N, 124 NC, 125 HDMI_D1_P, 126 NC, 127 GND, 128 NC, 129 HDMI_D2_N, 130 NC, 131 HDMI_D2_P, 132 NC, 133 GND, 134 GND, 135 CAM1_DP3, 136 CAM0_DP0, 137 CAM1_DN3, 138 CAM0_DN0, 139 GND, 140 GND, 141 CAM1_DP2, 142 CAM0_CP, 143 CAM1_DN2, 144 CAM0_CN, 145 GND, 146 GND, 147 CAM1_CP, 148 CAM0_DP1, 149 CAM1_CN, 150 CAM0_DN1, 151 GND, 152 GND, 153 CAM1_DP1, 154 NC, 155 CAM1_DN1, 156 NC, 157 GND, 158 NC, 159 CAM1_DP0, 160 NC, 161 CAM1_DN0, 162 NC, 163 GND, 164 GND, 165 USB_DP, 166 TVDAC, 167 USB_DM, 168 USB_OTGID, 169 GND, 170 GND, 171 HDMI_CEC, 172 VC_TRST_N, 173 HDMI_SDA, 174 VC_TDI, 175 HDMI_SCL, 176 VC_TMS, 177 RUN, 178 VC_TDO, 179 VDD_CORE, 180 VC_TCK, 181 GND, 182 GND, 183 CM_1V8, 184 CM_1V8, 185 CM_1V8, 186 CM_1V8, 187 GND, 188 GND, 189 CM_VDAC, 190 CM_VDAC, 191 CM_3V3, 192 CM_3V3, 193 CM_3V3, 194 CM_3V3, 195 GND, 196 GND, 197 CM_VBAT, 198 CM_VBAT, 199 CM_VBAT, 200 CM_VBAT, A1 NC, A2 NC, A3 NC, A4 NC, B1 GND, B2 GND

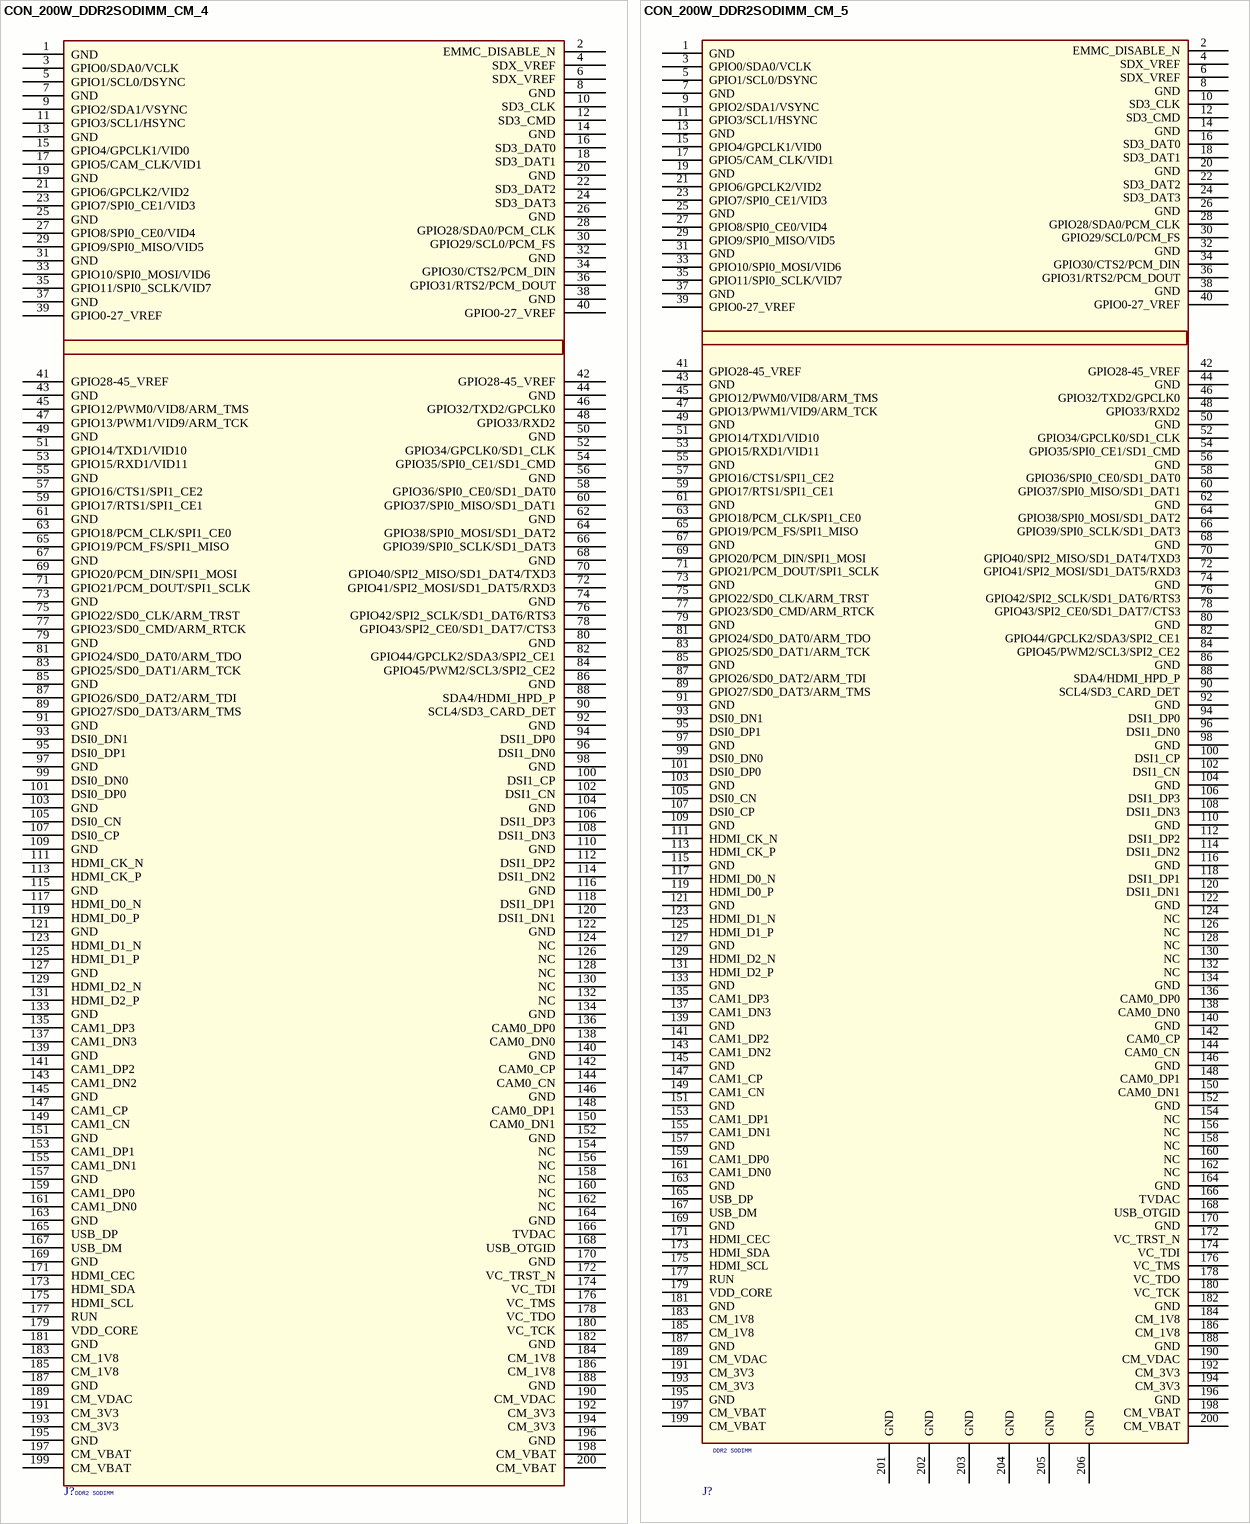
[diagram p6: symbols CON_200W_DDR2SODIMM_CM_4 to CON_200W_DDR2SODIMM_CM_5]

## CON_200W_DDR2SODIMM_CM_4
designator J?, comment DDR2 SODIMM
footprint FCI_10033853_CM
pins: 1 GND, 2 EMMC_DISABLE_N, 3 GPIO0/SDA0/VCLK, 4 SDX_VREF, 5 GPIO1/SCL0/DSYNC, 6 SDX_VREF, 7 GND, 8 GND, 9 GPIO2/SDA1/VSYNC, 10 SD3_CLK, 11 GPIO3/SCL1/HSYNC, 12 SD3_CMD, 13 GND, 14 GND, 15 GPIO4/GPCLK1/VID0, 16 SD3_DAT0, 17 GPIO5/CAM_CLK/VID1, 18 SD3_DAT1, 19 GND, 20 GND, 21 GPIO6/GPCLK2/VID2, 22 SD3_DAT2, 23 GPIO7/SPI0_CE1/VID3, 24 SD3_DAT3, 25 GND, 26 GND, 27 GPIO8/SPI0_CE0/VID4, 28 GPIO28/SDA0/PCM_CLK, 29 GPIO9/SPI0_MISO/VID5, 30 GPIO29/SCL0/PCM_FS, 31 GND, 32 GND, 33 GPIO10/SPI0_MOSI/VID6, 34 GPIO30/CTS2/PCM_DIN, 35 GPIO11/SPI0_SCLK/VID7, 36 GPIO31/RTS2/PCM_DOUT, 37 GND, 38 GND, 39 GPIO0-27_VREF, 40 GPIO0-27_VREF, 41 GPIO28-45_VREF, 42 GPIO28-45_VREF, 43 GND, 44 GND, 45 GPIO12/PWM0/VID8/ARM_TMS, 46 GPIO32/TXD2/GPCLK0, 47 GPIO13/PWM1/VID9/ARM_TCK, 48 GPIO33/RXD2, 49 GND, 50 GND, 51 GPIO14/TXD1/VID10, 52 GPIO34/GPCLK0/SD1_CLK, 53 GPIO15/RXD1/VID11, 54 GPIO35/SPI0_CE1/SD1_CMD, 55 GND, 56 GND, 57 GPIO16/CTS1/SPI1_CE2, 58 GPIO36/SPI0_CE0/SD1_DAT0, 59 GPIO17/RTS1/SPI1_CE1, 60 GPIO37/SPI0_MISO/SD1_DAT1, 61 GND, 62 GND, 63 GPIO18/PCM_CLK/SPI1_CE0, 64 GPIO38/SPI0_MOSI/SD1_DAT2, 65 GPIO19/PCM_FS/SPI1_MISO, 66 GPIO39/SPI0_SCLK/SD1_DAT3, 67 GND, 68 GND, 69 GPIO20/PCM_DIN/SPI1_MOSI, 70 GPIO40/SPI2_MISO/SD1_DAT4/TXD3, 71 GPIO21/PCM_DOUT/SPI1_SCLK, 72 GPIO41/SPI2_MOSI/SD1_DAT5/RXD3, 73 GND, 74 GND, 75 GPIO22/SD0_CLK/ARM_TRST, 76 GPIO42/SPI2_SCLK/SD1_DAT6/RTS3, 77 GPIO23/SD0_CMD/ARM_RTCK, 78 GPIO43/SPI2_CE0/SD1_DAT7/CTS3, 79 GND, 80 GND, 81 GPIO24/SD0_DAT0/ARM_TDO, 82 GPIO44/GPCLK2/SDA3/SPI2_CE1, 83 GPIO25/SD0_DAT1/ARM_TCK, 84 GPIO45/PWM2/SCL3/SPI2_CE2, 85 GND, 86 GND, 87 GPIO26/SD0_DAT2/ARM_TDI, 88 SDA4/HDMI_HPD_P, 89 GPIO27/SD0_DAT3/ARM_TMS, 90 SCL4/SD3_CARD_DET, 91 GND, 92 GND, 93 DSI0_DN1, 94 DSI1_DP0, 95 DSI0_DP1, 96 DSI1_DN0, 97 GND, 98 GND, 99 DSI0_DN0, 100 DSI1_CP, 101 DSI0_DP0, 102 DSI1_CN, 103 GND, 104 GND, 105 DSI0_CN, 106 DSI1_DP3, 107 DSI0_CP, 108 DSI1_DN3, 109 GND, 110 GND, 111 HDMI_CK_N, 112 DSI1_DP2, 113 HDMI_CK_P, 114 DSI1_DN2, 115 GND, 116 GND, 117 HDMI_D0_N, 118 DSI1_DP1, 119 HDMI_D0_P, 120 DSI1_DN1, 121 GND, 122 GND, 123 HDMI_D1_N, 124 NC, 125 HDMI_D1_P, 126 NC, 127 GND, 128 NC, 129 HDMI_D2_N, 130 NC, 131 HDMI_D2_P, 132 NC, 133 GND, 134 GND, 135 CAM1_DP3, 136 CAM0_DP0, 137 CAM1_DN3, 138 CAM0_DN0, 139 GND, 140 GND, 141 CAM1_DP2, 142 CAM0_CP, 143 CAM1_DN2, 144 CAM0_CN, 145 GND, 146 GND, 147 CAM1_CP, 148 CAM0_DP1, 149 CAM1_CN, 150 CAM0_DN1, 151 GND, 152 GND, 153 CAM1_DP1, 154 NC, 155 CAM1_DN1, 156 NC, 157 GND, 158 NC, 159 CAM1_DP0, 160 NC, 161 CAM1_DN0, 162 NC, 163 GND, 164 GND, 165 USB_DP, 166 TVDAC, 167 USB_DM, 168 USB_OTGID, 169 GND, 170 GND, 171 HDMI_CEC, 172 VC_TRST_N, 173 HDMI_SDA, 174 VC_TDI, 175 HDMI_SCL, 176 VC_TMS, 177 RUN, 178 VC_TDO, 179 VDD_CORE, 180 VC_TCK, 181 GND, 182 GND, 183 CM_1V8, 184 CM_1V8, 185 CM_1V8, 186 CM_1V8, 187 GND, 188 GND, 189 CM_VDAC, 190 CM_VDAC, 191 CM_3V3, 192 CM_3V3, 193 CM_3V3, 194 CM_3V3, 195 GND, 196 GND, 197 CM_VBAT, 198 CM_VBAT, 199 CM_VBAT, 200 CM_VBAT

## CON_200W_DDR2SODIMM_CM_5
designator J?, comment DDR2 SODIMM
footprint FCI_10033853_CM
pins: 1 GND, 2 EMMC_DISABLE_N, 3 GPIO0/SDA0/VCLK, 4 SDX_VREF, 5 GPIO1/SCL0/DSYNC, 6 SDX_VREF, 7 GND, 8 GND, 9 GPIO2/SDA1/VSYNC, 10 SD3_CLK, 11 GPIO3/SCL1/HSYNC, 12 SD3_CMD, 13 GND, 14 GND, 15 GPIO4/GPCLK1/VID0, 16 SD3_DAT0, 17 GPIO5/CAM_CLK/VID1, 18 SD3_DAT1, 19 GND, 20 GND, 21 GPIO6/GPCLK2/VID2, 22 SD3_DAT2, 23 GPIO7/SPI0_CE1/VID3, 24 SD3_DAT3, 25 GND, 26 GND, 27 GPIO8/SPI0_CE0/VID4, 28 GPIO28/SDA0/PCM_CLK, 29 GPIO9/SPI0_MISO/VID5, 30 GPIO29/SCL0/PCM_FS, 31 GND, 32 GND, 33 GPIO10/SPI0_MOSI/VID6, 34 GPIO30/CTS2/PCM_DIN, 35 GPIO11/SPI0_SCLK/VID7, 36 GPIO31/RTS2/PCM_DOUT, 37 GND, 38 GND, 39 GPIO0-27_VREF, 40 GPIO0-27_VREF, 41 GPIO28-45_VREF, 42 GPIO28-45_VREF, 43 GND, 44 GND, 45 GPIO12/PWM0/VID8/ARM_TMS, 46 GPIO32/TXD2/GPCLK0, 47 GPIO13/PWM1/VID9/ARM_TCK, 48 GPIO33/RXD2, 49 GND, 50 GND, 51 GPIO14/TXD1/VID10, 52 GPIO34/GPCLK0/SD1_CLK, 53 GPIO15/RXD1/VID11, 54 GPIO35/SPI0_CE1/SD1_CMD, 55 GND, 56 GND, 57 GPIO16/CTS1/SPI1_CE2, 58 GPIO36/SPI0_CE0/SD1_DAT0, 59 GPIO17/RTS1/SPI1_CE1, 60 GPIO37/SPI0_MISO/SD1_DAT1, 61 GND, 62 GND, 63 GPIO18/PCM_CLK/SPI1_CE0, 64 GPIO38/SPI0_MOSI/SD1_DAT2, 65 GPIO19/PCM_FS/SPI1_MISO, 66 GPIO39/SPI0_SCLK/SD1_DAT3, 67 GND, 68 GND, 69 GPIO20/PCM_DIN/SPI1_MOSI, 70 GPIO40/SPI2_MISO/SD1_DAT4/TXD3, 71 GPIO21/PCM_DOUT/SPI1_SCLK, 72 GPIO41/SPI2_MOSI/SD1_DAT5/RXD3, 73 GND, 74 GND, 75 GPIO22/SD0_CLK/ARM_TRST, 76 GPIO42/SPI2_SCLK/SD1_DAT6/RTS3, 77 GPIO23/SD0_CMD/ARM_RTCK, 78 GPIO43/SPI2_CE0/SD1_DAT7/CTS3, 79 GND, 80 GND, 81 GPIO24/SD0_DAT0/ARM_TDO, 82 GPIO44/GPCLK2/SDA3/SPI2_CE1, 83 GPIO25/SD0_DAT1/ARM_TCK, 84 GPIO45/PWM2/SCL3/SPI2_CE2, 85 GND, 86 GND, 87 GPIO26/SD0_DAT2/ARM_TDI, 88 SDA4/HDMI_HPD_P, 89 GPIO27/SD0_DAT3/ARM_TMS, 90 SCL4/SD3_CARD_DET, 91 GND, 92 GND, 93 DSI0_DN1, 94 DSI1_DP0, 95 DSI0_DP1, 96 DSI1_DN0, 97 GND, 98 GND, 99 DSI0_DN0, 100 DSI1_CP, 101 DSI0_DP0, 102 DSI1_CN, 103 GND, 104 GND, 105 DSI0_CN, 106 DSI1_DP3, 107 DSI0_CP, 108 DSI1_DN3, 109 GND, 110 GND, 111 HDMI_CK_N, 112 DSI1_DP2, 113 HDMI_CK_P, 114 DSI1_DN2, 115 GND, 116 GND, 117 HDMI_D0_N, 118 DSI1_DP1, 119 HDMI_D0_P, 120 DSI1_DN1, 121 GND, 122 GND, 123 HDMI_D1_N, 124 NC, 125 HDMI_D1_P, 126 NC, 127 GND, 128 NC, 129 HDMI_D2_N, 130 NC, 131 HDMI_D2_P, 132 NC, 133 GND, 134 GND, 135 CAM1_DP3, 136 CAM0_DP0, 137 CAM1_DN3, 138 CAM0_DN0, 139 GND, 140 GND, 141 CAM1_DP2, 142 CAM0_CP, 143 CAM1_DN2, 144 CAM0_CN, 145 GND, 146 GND, 147 CAM1_CP, 148 CAM0_DP1, 149 CAM1_CN, 150 CAM0_DN1, 151 GND, 152 GND, 153 CAM1_DP1, 154 NC, 155 CAM1_DN1, 156 NC, 157 GND, 158 NC, 159 CAM1_DP0, 160 NC, 161 CAM1_DN0, 162 NC, 163 GND, 164 GND, 165 USB_DP, 166 TVDAC, 167 USB_DM, 168 USB_OTGID, 169 GND, 170 GND, 171 HDMI_CEC, 172 VC_TRST_N, 173 HDMI_SDA, 174 VC_TDI, 175 HDMI_SCL, 176 VC_TMS, 177 RUN, 178 VC_TDO, 179 VDD_CORE, 180 VC_TCK, 181 GND, 182 GND, 183 CM_1V8, 184 CM_1V8, 185 CM_1V8, 186 CM_1V8, 187 GND, 188 GND, 189 CM_VDAC, 190 CM_VDAC, 191 CM_3V3, 192 CM_3V3, 193 CM_3V3, 194 CM_3V3, 195 GND, 196 GND, 197 CM_VBAT, 198 CM_VBAT, 199 CM_VBAT, 200 CM_VBAT, 201 GND, 202 GND, 203 GND, 204 GND, 205 GND, 206 GND

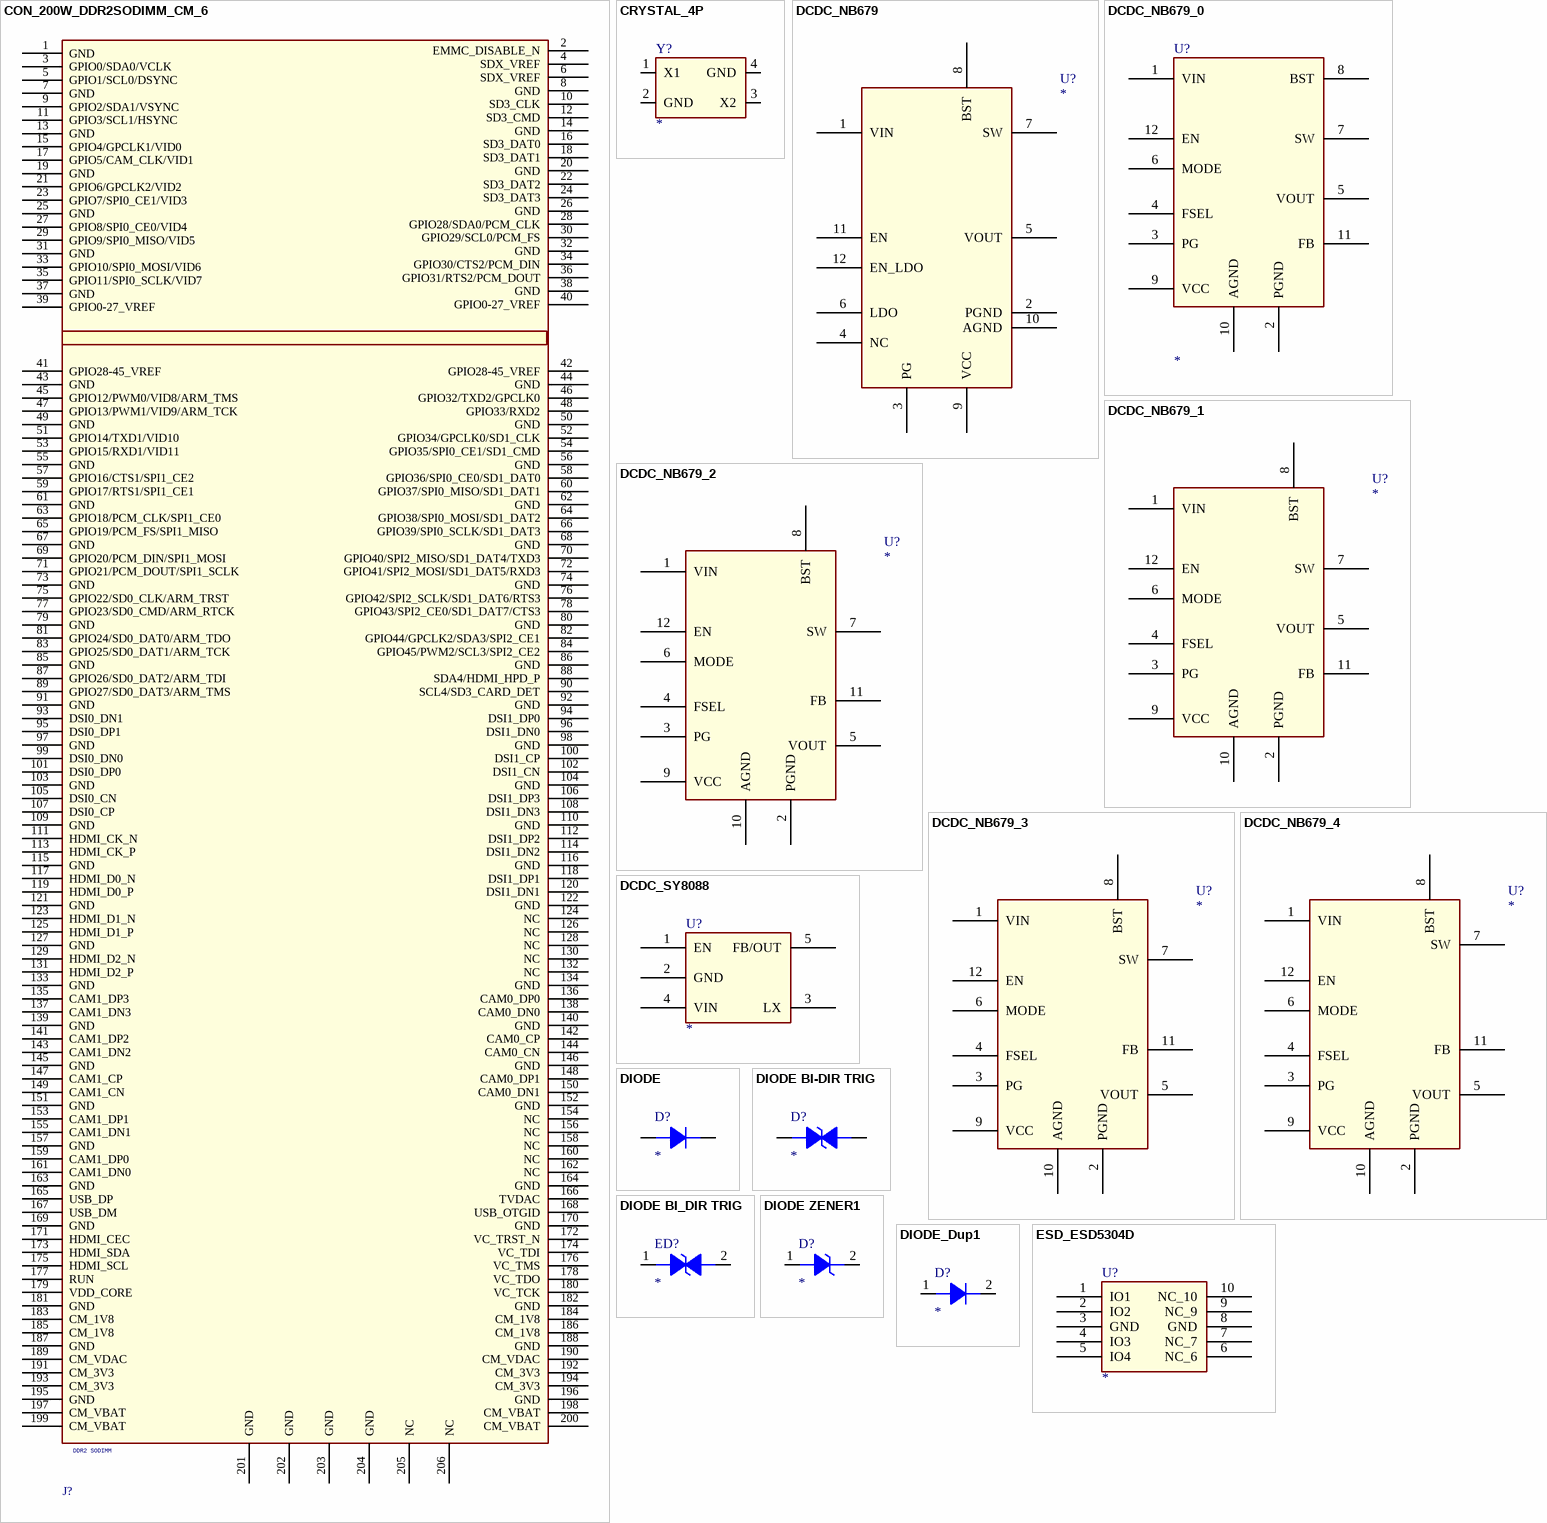
[diagram p7: symbols CON_200W_DDR2SODIMM_CM_6 to ESD_ESD5304D]

## CON_200W_DDR2SODIMM_CM_6
designator J?, comment DDR2 SODIMM
footprint FCI_10033853_CM
pins: 1 GND, 2 EMMC_DISABLE_N, 3 GPIO0/SDA0/VCLK, 4 SDX_VREF, 5 GPIO1/SCL0/DSYNC, 6 SDX_VREF, 7 GND, 8 GND, 9 GPIO2/SDA1/VSYNC, 10 SD3_CLK, 11 GPIO3/SCL1/HSYNC, 12 SD3_CMD, 13 GND, 14 GND, 15 GPIO4/GPCLK1/VID0, 16 SD3_DAT0, 17 GPIO5/CAM_CLK/VID1, 18 SD3_DAT1, 19 GND, 20 GND, 21 GPIO6/GPCLK2/VID2, 22 SD3_DAT2, 23 GPIO7/SPI0_CE1/VID3, 24 SD3_DAT3, 25 GND, 26 GND, 27 GPIO8/SPI0_CE0/VID4, 28 GPIO28/SDA0/PCM_CLK, 29 GPIO9/SPI0_MISO/VID5, 30 GPIO29/SCL0/PCM_FS, 31 GND, 32 GND, 33 GPIO10/SPI0_MOSI/VID6, 34 GPIO30/CTS2/PCM_DIN, 35 GPIO11/SPI0_SCLK/VID7, 36 GPIO31/RTS2/PCM_DOUT, 37 GND, 38 GND, 39 GPIO0-27_VREF, 40 GPIO0-27_VREF, 41 GPIO28-45_VREF, 42 GPIO28-45_VREF, 43 GND, 44 GND, 45 GPIO12/PWM0/VID8/ARM_TMS, 46 GPIO32/TXD2/GPCLK0, 47 GPIO13/PWM1/VID9/ARM_TCK, 48 GPIO33/RXD2, 49 GND, 50 GND, 51 GPIO14/TXD1/VID10, 52 GPIO34/GPCLK0/SD1_CLK, 53 GPIO15/RXD1/VID11, 54 GPIO35/SPI0_CE1/SD1_CMD, 55 GND, 56 GND, 57 GPIO16/CTS1/SPI1_CE2, 58 GPIO36/SPI0_CE0/SD1_DAT0, 59 GPIO17/RTS1/SPI1_CE1, 60 GPIO37/SPI0_MISO/SD1_DAT1, 61 GND, 62 GND, 63 GPIO18/PCM_CLK/SPI1_CE0, 64 GPIO38/SPI0_MOSI/SD1_DAT2, 65 GPIO19/PCM_FS/SPI1_MISO, 66 GPIO39/SPI0_SCLK/SD1_DAT3, 67 GND, 68 GND, 69 GPIO20/PCM_DIN/SPI1_MOSI, 70 GPIO40/SPI2_MISO/SD1_DAT4/TXD3, 71 GPIO21/PCM_DOUT/SPI1_SCLK, 72 GPIO41/SPI2_MOSI/SD1_DAT5/RXD3, 73 GND, 74 GND, 75 GPIO22/SD0_CLK/ARM_TRST, 76 GPIO42/SPI2_SCLK/SD1_DAT6/RTS3, 77 GPIO23/SD0_CMD/ARM_RTCK, 78 GPIO43/SPI2_CE0/SD1_DAT7/CTS3, 79 GND, 80 GND, 81 GPIO24/SD0_DAT0/ARM_TDO, 82 GPIO44/GPCLK2/SDA3/SPI2_CE1, 83 GPIO25/SD0_DAT1/ARM_TCK, 84 GPIO45/PWM2/SCL3/SPI2_CE2, 85 GND, 86 GND, 87 GPIO26/SD0_DAT2/ARM_TDI, 88 SDA4/HDMI_HPD_P, 89 GPIO27/SD0_DAT3/ARM_TMS, 90 SCL4/SD3_CARD_DET, 91 GND, 92 GND, 93 DSI0_DN1, 94 DSI1_DP0, 95 DSI0_DP1, 96 DSI1_DN0, 97 GND, 98 GND, 99 DSI0_DN0, 100 DSI1_CP, 101 DSI0_DP0, 102 DSI1_CN, 103 GND, 104 GND, 105 DSI0_CN, 106 DSI1_DP3, 107 DSI0_CP, 108 DSI1_DN3, 109 GND, 110 GND, 111 HDMI_CK_N, 112 DSI1_DP2, 113 HDMI_CK_P, 114 DSI1_DN2, 115 GND, 116 GND, 117 HDMI_D0_N, 118 DSI1_DP1, 119 HDMI_D0_P, 120 DSI1_DN1, 121 GND, 122 GND, 123 HDMI_D1_N, 124 NC, 125 HDMI_D1_P, 126 NC, 127 GND, 128 NC, 129 HDMI_D2_N, 130 NC, 131 HDMI_D2_P, 132 NC, 133 GND, 134 GND, 135 CAM1_DP3, 136 CAM0_DP0, 137 CAM1_DN3, 138 CAM0_DN0, 139 GND, 140 GND, 141 CAM1_DP2, 142 CAM0_CP, 143 CAM1_DN2, 144 CAM0_CN, 145 GND, 146 GND, 147 CAM1_CP, 148 CAM0_DP1, 149 CAM1_CN, 150 CAM0_DN1, 151 GND, 152 GND, 153 CAM1_DP1, 154 NC, 155 CAM1_DN1, 156 NC, 157 GND, 158 NC, 159 CAM1_DP0, 160 NC, 161 CAM1_DN0, 162 NC, 163 GND, 164 GND, 165 USB_DP, 166 TVDAC, 167 USB_DM, 168 USB_OTGID, 169 GND, 170 GND, 171 HDMI_CEC, 172 VC_TRST_N, 173 HDMI_SDA, 174 VC_TDI, 175 HDMI_SCL, 176 VC_TMS, 177 RUN, 178 VC_TDO, 179 VDD_CORE, 180 VC_TCK, 181 GND, 182 GND, 183 CM_1V8, 184 CM_1V8, 185 CM_1V8, 186 CM_1V8, 187 GND, 188 GND, 189 CM_VDAC, 190 CM_VDAC, 191 CM_3V3, 192 CM_3V3, 193 CM_3V3, 194 CM_3V3, 195 GND, 196 GND, 197 CM_VBAT, 198 CM_VBAT, 199 CM_VBAT, 200 CM_VBAT, 201 GND, 202 GND, 203 GND, 204 GND, 205 NC, 206 NC

## CRYSTAL_4P
designator Y?
footprint CRY-3225
pins: 1 X1, 2 GND (power), 3 X2, 4 GND (power)

## DCDC_NB679
designator U?
footprint QFN12_3R00X2R00X0R90
pins: 1 VIN, 2 PGND, 3 PG, 4 NC, 5 VOUT, 6 LDO, 7 SW, 8 BST, 9 VCC, 10 AGND, 11 EN, 12 EN_LDO

## DCDC_NB679_0
designator U?
footprint QFN12_3R00X2R00X0R90
pins: 1 VIN, 2 PGND, 3 PG, 4 FSEL, 5 VOUT, 6 MODE, 7 SW, 8 BST, 9 VCC, 10 AGND, 11 FB, 12 EN

## DCDC_NB679_1
designator U?
footprint QFN12_3R00X2R00X0R90
pins: 1 VIN, 2 PGND, 3 PG, 4 FSEL, 5 VOUT, 6 MODE, 7 SW, 8 BST, 9 VCC, 10 AGND, 11 FB, 12 EN

## DCDC_NB679_2
designator U?
footprint QFN12_3R00X2R00X0R90
pins: 1 VIN, 2 PGND, 3 PG, 4 FSEL, 5 VOUT, 6 MODE, 7 SW, 8 BST, 9 VCC, 10 AGND, 11 FB, 12 EN

## DCDC_NB679_3
designator U?
footprint QFN12_3R00X2R00X0R90
pins: 1 VIN, 2 PGND, 3 PG, 4 FSEL, 5 VOUT, 6 MODE, 7 SW, 8 BST, 9 VCC, 10 AGND, 11 FB, 12 EN

## DCDC_NB679_4
designator U?
footprint QFN12_3R00X2R00X0R90
pins: 1 VIN, 2 PGND, 3 PG, 4 FSEL, 5 VOUT, 6 MODE, 7 SW, 8 BST, 9 VCC, 10 AGND, 11 FB, 12 EN

## DCDC_SY8088
designator U?
pins: 1 EN, 2 GND, 3 LX, 4 VIN, 5 FB/OUT

## DIODE
designator D?
pins: 1 A, 2 K

## DIODE BI-DIR TRIG
designator D?
pins: 1, 2

## DIODE BI_DIR TRIG
designator ED?
pins: 1, 2

## DIODE ZENER1
designator D?
pins: 1 ANODE, 2 CATHODE

## DIODE_Dup1
designator D?
pins: 1 A, 2 K

## ESD_ESD5304D
designator U?
pins: 1 IO1, 2 IO2, 3 GND (power), 4 IO3, 5 IO4, 6 NC_6, 7 NC_7, 8 GND (power), 9 NC_9, 10 NC_10

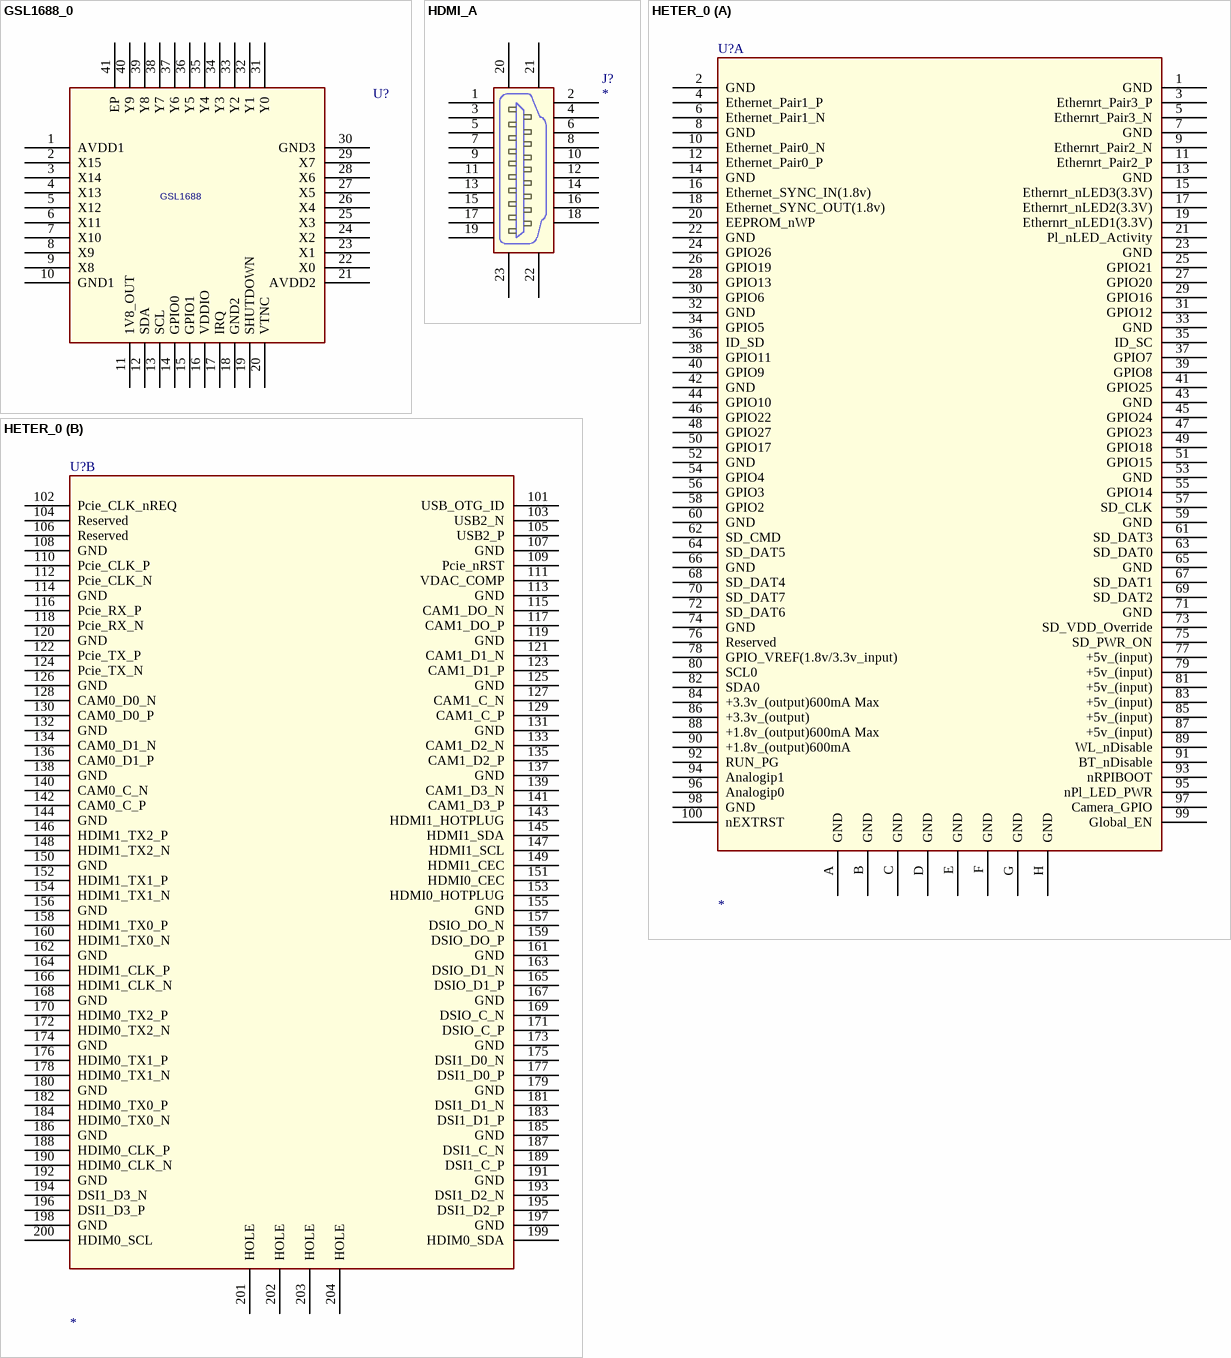
[diagram p8: symbols GSL1688_0 to HETER_0]

## GSL1688_0
designator U?, comment GSL1688
pins: 1 AVDD1, 2 X15, 3 X14, 4 X13, 5 X12, 6 X11, 7 X10, 8 X9, 9 X8, 10 GND1, 11 1V8_OUT, 12 SDA, 13 SCL, 14 GPIO0, 15 GPIO1, 16 VDDIO, 17 IRQ, 18 GND2, 19 SHUTDOWN, 20 VTNC, 21 AVDD2, 22 X0, 23 X1, 24 X2, 25 X3, 26 X4, 27 X5, 28 X6, 29 X7, 30 GND3, 31 Y0, 32 Y1, 33 Y2, 34 Y3, 35 Y4, 36 Y5, 37 Y6, 38 Y7, 39 Y8, 40 Y9, 41 EP

## HDMI_A
designator J?
pins: 1 $PIN0, 2, 3, 4, 5, 6, 7, 8, 9, 10, 11, 12, 13, 14, 15, 16, 17, 18, 19, 20, 21, 22, 23

## HETER_0
designator U?
part A pins: 1 GND, 2 GND, 3 Ethernrt_Pair3_P, 4 Ethernet_Pair1_P, 5 Ethernrt_Pair3_N, 6 Ethernet_Pair1_N, 7 GND, 8 GND, 9 Ethernrt_Pair2_N, 10 Ethernet_Pair0_N, 11 Ethernrt_Pair2_P, 12 Ethernet_Pair0_P, 13 GND, 14 GND, 15 Ethernrt_nLED3(3.3V), 16 Ethernet_SYNC_IN(1.8v), 17 Ethernrt_nLED2(3.3V), 18 Ethernet_SYNC_OUT(1.8v), 19 Ethernrt_nLED1(3.3V), 20 EEPROM_nWP, 21 Pl_nLED_Activity, 22 GND, 23 GND, 24 GPIO26, 25 GPIO21, 26 GPIO19, 27 GPIO20, 28 GPIO13, 29 GPIO16, 30 GPIO6, 31 GPIO12, 32 GND, 33 GND, 34 GPIO5, 35 ID_SC, 36 ID_SD, 37 GPIO7, 38 GPIO11, 39 GPIO8, 40 GPIO9, 41 GPIO25, 42 GND, 43 GND, 44 GPIO10, 45 GPIO24, 46 GPIO22, 47 GPIO23, 48 GPIO27, 49 GPIO18, 50 GPIO17, 51 GPIO15, 52 GND, 53 GND, 54 GPIO4, 55 GPIO14, 56 GPIO3, 57 SD_CLK, 58 GPIO2, 59 GND, 60 GND, 61 SD_DAT3, 62 SD_CMD, 63 SD_DAT0, 64 SD_DAT5, 65 GND, 66 GND, 67 SD_DAT1, 68 SD_DAT4, 69 SD_DAT2, 70 SD_DAT7, 71 GND, 72 SD_DAT6, 73 SD_VDD_Override, 74 GND, 75 SD_PWR_ON, 76 Reserved, 77 +5v_(input), 78 GPIO_VREF(1.8v/3.3v_input), 79 +5v_(input), 80 SCL0, 81 +5v_(input), 82 SDA0, 83 +5v_(input), 84 +3.3v_(output)600mA Max, 85 +5v_(input), 86 +3.3v_(output), 87 +5v_(input), 88 +1.8v_(output)600mA Max, 89 WL_nDisable, 90 +1.8v_(output)600mA , 91 BT_nDisable, 92 RUN_PG, 93 nRPIBOOT, 94 Analogip1, 95 nPl_LED_PWR, 96 Analogip0, 97 Camera_GPIO, 98 GND, 99 Global_EN, 100 nEXTRST, A GND, B GND, C GND, D GND, E GND, F GND, G GND, H GND
part B pins: 101 USB_OTG_ID, 102 Pcie_CLK_nREQ, 103 USB2_N, 104 Reserved, 105 USB2_P, 106 Reserved, 107 GND, 108 GND, 109 Pcie_nRST, 110 Pcie_CLK_P, 111 VDAC_COMP, 112 Pcie_CLK_N, 113 GND, 114 GND, 115 CAM1_DO_N, 116 Pcie_RX_P, 117 CAM1_DO_P, 118 Pcie_RX_N, 119 GND, 120 GND, 121 CAM1_D1_N, 122 Pcie_TX_P, 123 CAM1_D1_P, 124 Pcie_TX_N, 125 GND, 126 GND, 127 CAM1_C_N, 128 CAM0_D0_N, 129 CAM1_C_P, 130 CAM0_D0_P, 131 GND, 132 GND, 133 CAM1_D2_N, 134 CAM0_D1_N, 135 CAM1_D2_P, 136 CAM0_D1_P, 137 GND, 138 GND, 139 CAM1_D3_N, 140 CAM0_C_N, 141 CAM1_D3_P, 142 CAM0_C_P, 143 HDMI1_HOTPLUG, 144 GND, 145 HDMI1_SDA, 146 HDIM1_TX2_P, 147 HDMI1_SCL, 148 HDIM1_TX2_N, 149 HDMI1_CEC, 150 GND, 151 HDMI0_CEC, 152 HDIM1_TX1_P, 153 HDMI0_HOTPLUG, 154 HDIM1_TX1_N, 155 GND, 156 GND, 157 DSIO_DO_N, 158 HDIM1_TX0_P, 159 DSIO_DO_P, 160 HDIM1_TX0_N, 161 GND, 162 GND, 163 DSIO_D1_N, 164 HDIM1_CLK_P, 165 DSIO_D1_P, 166 HDIM1_CLK_N, 167 GND, 168 GND, 169 DSIO_C_N, 170 HDIM0_TX2_P, 171 DSIO_C_P, 172 HDIM0_TX2_N, 173 GND, 174 GND, 175 DSI1_D0_N, 176 HDIM0_TX1_P, 177 DSI1_D0_P, 178 HDIM0_TX1_N, 179 GND, 180 GND, 181 DSI1_D1_N, 182 HDIM0_TX0_P, 183 DSI1_D1_P, 184 HDIM0_TX0_N, 185 GND, 186 GND, 187 DSI1_C_N, 188 HDIM0_CLK_P, 189 DSI1_C_P, 190 HDIM0_CLK_N, 191 GND, 192 GND, 193 DSI1_D2_N, 194 DSI1_D3_N, 195 DSI1_D2_P, 196 DSI1_D3_P, 197 GND, 198 GND, 199 HDIM0_SDA, 200 HDIM0_SCL, 201 HOLE, 202 HOLE, 203 HOLE, 204 HOLE

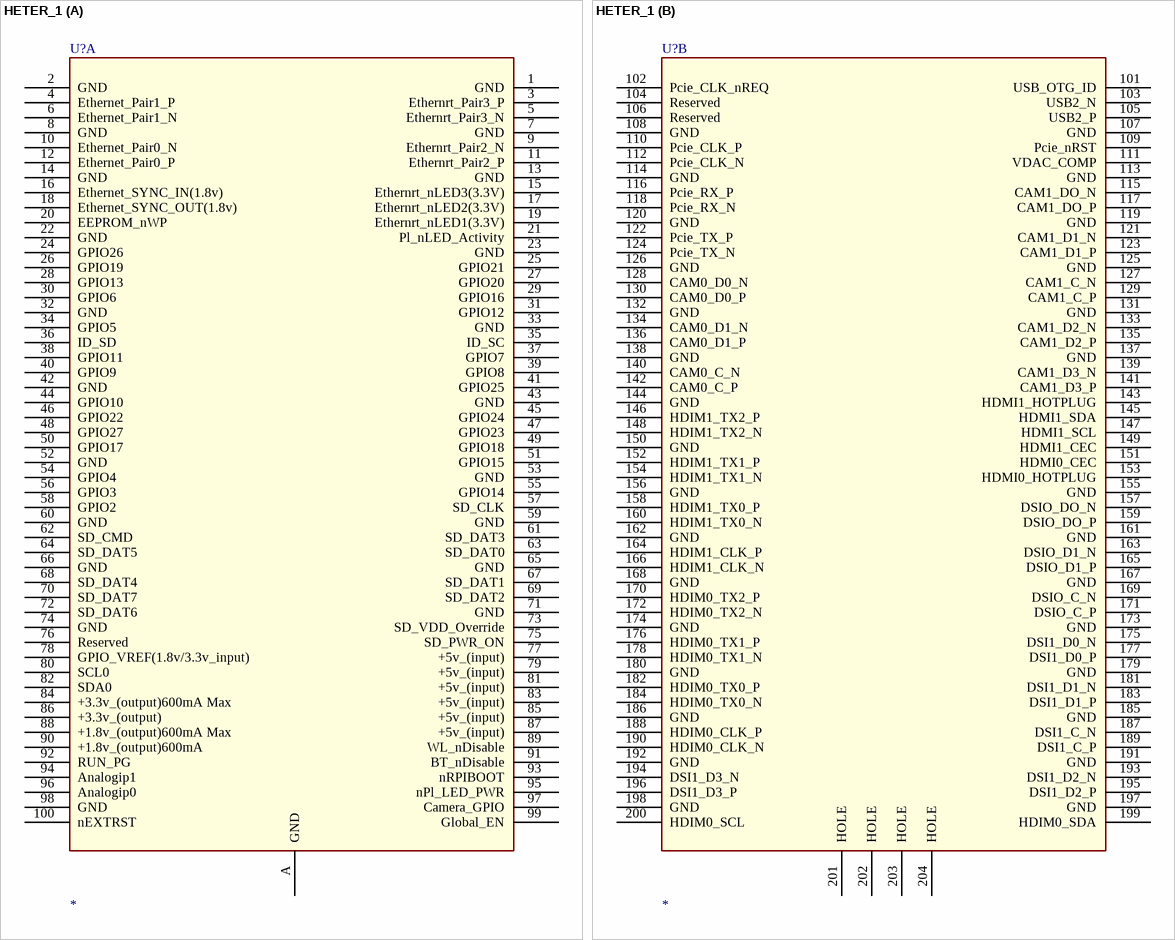
[diagram p9: symbol HETER_1]

## HETER_1
designator U?
part A pins: 1 GND, 2 GND, 3 Ethernrt_Pair3_P, 4 Ethernet_Pair1_P, 5 Ethernrt_Pair3_N, 6 Ethernet_Pair1_N, 7 GND, 8 GND, 9 Ethernrt_Pair2_N, 10 Ethernet_Pair0_N, 11 Ethernrt_Pair2_P, 12 Ethernet_Pair0_P, 13 GND, 14 GND, 15 Ethernrt_nLED3(3.3V), 16 Ethernet_SYNC_IN(1.8v), 17 Ethernrt_nLED2(3.3V), 18 Ethernet_SYNC_OUT(1.8v), 19 Ethernrt_nLED1(3.3V), 20 EEPROM_nWP, 21 Pl_nLED_Activity, 22 GND, 23 GND, 24 GPIO26, 25 GPIO21, 26 GPIO19, 27 GPIO20, 28 GPIO13, 29 GPIO16, 30 GPIO6, 31 GPIO12, 32 GND, 33 GND, 34 GPIO5, 35 ID_SC, 36 ID_SD, 37 GPIO7, 38 GPIO11, 39 GPIO8, 40 GPIO9, 41 GPIO25, 42 GND, 43 GND, 44 GPIO10, 45 GPIO24, 46 GPIO22, 47 GPIO23, 48 GPIO27, 49 GPIO18, 50 GPIO17, 51 GPIO15, 52 GND, 53 GND, 54 GPIO4, 55 GPIO14, 56 GPIO3, 57 SD_CLK, 58 GPIO2, 59 GND, 60 GND, 61 SD_DAT3, 62 SD_CMD, 63 SD_DAT0, 64 SD_DAT5, 65 GND, 66 GND, 67 SD_DAT1, 68 SD_DAT4, 69 SD_DAT2, 70 SD_DAT7, 71 GND, 72 SD_DAT6, 73 SD_VDD_Override, 74 GND, 75 SD_PWR_ON, 76 Reserved, 77 +5v_(input), 78 GPIO_VREF(1.8v/3.3v_input), 79 +5v_(input), 80 SCL0, 81 +5v_(input), 82 SDA0, 83 +5v_(input), 84 +3.3v_(output)600mA Max, 85 +5v_(input), 86 +3.3v_(output), 87 +5v_(input), 88 +1.8v_(output)600mA Max, 89 WL_nDisable, 90 +1.8v_(output)600mA , 91 BT_nDisable, 92 RUN_PG, 93 nRPIBOOT, 94 Analogip1, 95 nPl_LED_PWR, 96 Analogip0, 97 Camera_GPIO, 98 GND, 99 Global_EN, 100 nEXTRST, A GND
part B pins: 101 USB_OTG_ID, 102 Pcie_CLK_nREQ, 103 USB2_N, 104 Reserved, 105 USB2_P, 106 Reserved, 107 GND, 108 GND, 109 Pcie_nRST, 110 Pcie_CLK_P, 111 VDAC_COMP, 112 Pcie_CLK_N, 113 GND, 114 GND, 115 CAM1_DO_N, 116 Pcie_RX_P, 117 CAM1_DO_P, 118 Pcie_RX_N, 119 GND, 120 GND, 121 CAM1_D1_N, 122 Pcie_TX_P, 123 CAM1_D1_P, 124 Pcie_TX_N, 125 GND, 126 GND, 127 CAM1_C_N, 128 CAM0_D0_N, 129 CAM1_C_P, 130 CAM0_D0_P, 131 GND, 132 GND, 133 CAM1_D2_N, 134 CAM0_D1_N, 135 CAM1_D2_P, 136 CAM0_D1_P, 137 GND, 138 GND, 139 CAM1_D3_N, 140 CAM0_C_N, 141 CAM1_D3_P, 142 CAM0_C_P, 143 HDMI1_HOTPLUG, 144 GND, 145 HDMI1_SDA, 146 HDIM1_TX2_P, 147 HDMI1_SCL, 148 HDIM1_TX2_N, 149 HDMI1_CEC, 150 GND, 151 HDMI0_CEC, 152 HDIM1_TX1_P, 153 HDMI0_HOTPLUG, 154 HDIM1_TX1_N, 155 GND, 156 GND, 157 DSIO_DO_N, 158 HDIM1_TX0_P, 159 DSIO_DO_P, 160 HDIM1_TX0_N, 161 GND, 162 GND, 163 DSIO_D1_N, 164 HDIM1_CLK_P, 165 DSIO_D1_P, 166 HDIM1_CLK_N, 167 GND, 168 GND, 169 DSIO_C_N, 170 HDIM0_TX2_P, 171 DSIO_C_P, 172 HDIM0_TX2_N, 173 GND, 174 GND, 175 DSI1_D0_N, 176 HDIM0_TX1_P, 177 DSI1_D0_P, 178 HDIM0_TX1_N, 179 GND, 180 GND, 181 DSI1_D1_N, 182 HDIM0_TX0_P, 183 DSI1_D1_P, 184 HDIM0_TX0_N, 185 GND, 186 GND, 187 DSI1_C_N, 188 HDIM0_CLK_P, 189 DSI1_C_P, 190 HDIM0_CLK_N, 191 GND, 192 GND, 193 DSI1_D2_N, 194 DSI1_D3_N, 195 DSI1_D2_P, 196 DSI1_D3_P, 197 GND, 198 GND, 199 HDIM0_SDA, 200 HDIM0_SCL, 201 HOLE, 202 HOLE, 203 HOLE, 204 HOLE

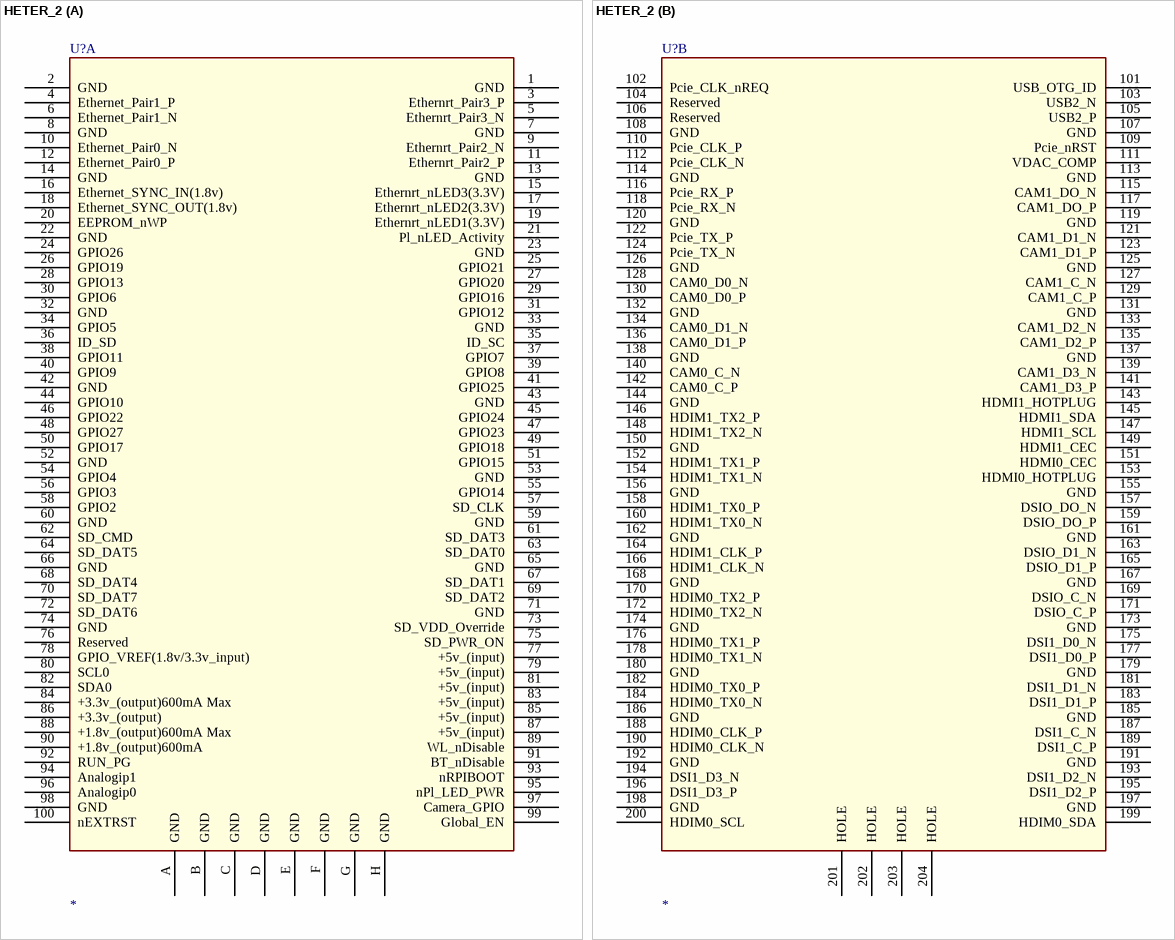
[diagram p10: symbol HETER_2]

## HETER_2
designator U?
part A pins: 1 GND, 2 GND, 3 Ethernrt_Pair3_P, 4 Ethernet_Pair1_P, 5 Ethernrt_Pair3_N, 6 Ethernet_Pair1_N, 7 GND, 8 GND, 9 Ethernrt_Pair2_N, 10 Ethernet_Pair0_N, 11 Ethernrt_Pair2_P, 12 Ethernet_Pair0_P, 13 GND, 14 GND, 15 Ethernrt_nLED3(3.3V), 16 Ethernet_SYNC_IN(1.8v), 17 Ethernrt_nLED2(3.3V), 18 Ethernet_SYNC_OUT(1.8v), 19 Ethernrt_nLED1(3.3V), 20 EEPROM_nWP, 21 Pl_nLED_Activity, 22 GND, 23 GND, 24 GPIO26, 25 GPIO21, 26 GPIO19, 27 GPIO20, 28 GPIO13, 29 GPIO16, 30 GPIO6, 31 GPIO12, 32 GND, 33 GND, 34 GPIO5, 35 ID_SC, 36 ID_SD, 37 GPIO7, 38 GPIO11, 39 GPIO8, 40 GPIO9, 41 GPIO25, 42 GND, 43 GND, 44 GPIO10, 45 GPIO24, 46 GPIO22, 47 GPIO23, 48 GPIO27, 49 GPIO18, 50 GPIO17, 51 GPIO15, 52 GND, 53 GND, 54 GPIO4, 55 GPIO14, 56 GPIO3, 57 SD_CLK, 58 GPIO2, 59 GND, 60 GND, 61 SD_DAT3, 62 SD_CMD, 63 SD_DAT0, 64 SD_DAT5, 65 GND, 66 GND, 67 SD_DAT1, 68 SD_DAT4, 69 SD_DAT2, 70 SD_DAT7, 71 GND, 72 SD_DAT6, 73 SD_VDD_Override, 74 GND, 75 SD_PWR_ON, 76 Reserved, 77 +5v_(input), 78 GPIO_VREF(1.8v/3.3v_input), 79 +5v_(input), 80 SCL0, 81 +5v_(input), 82 SDA0, 83 +5v_(input), 84 +3.3v_(output)600mA Max, 85 +5v_(input), 86 +3.3v_(output), 87 +5v_(input), 88 +1.8v_(output)600mA Max, 89 WL_nDisable, 90 +1.8v_(output)600mA , 91 BT_nDisable, 92 RUN_PG, 93 nRPIBOOT, 94 Analogip1, 95 nPl_LED_PWR, 96 Analogip0, 97 Camera_GPIO, 98 GND, 99 Global_EN, 100 nEXTRST, A GND, B GND, C GND, D GND, E GND, F GND, G GND, H GND
part B pins: 101 USB_OTG_ID, 102 Pcie_CLK_nREQ, 103 USB2_N, 104 Reserved, 105 USB2_P, 106 Reserved, 107 GND, 108 GND, 109 Pcie_nRST, 110 Pcie_CLK_P, 111 VDAC_COMP, 112 Pcie_CLK_N, 113 GND, 114 GND, 115 CAM1_DO_N, 116 Pcie_RX_P, 117 CAM1_DO_P, 118 Pcie_RX_N, 119 GND, 120 GND, 121 CAM1_D1_N, 122 Pcie_TX_P, 123 CAM1_D1_P, 124 Pcie_TX_N, 125 GND, 126 GND, 127 CAM1_C_N, 128 CAM0_D0_N, 129 CAM1_C_P, 130 CAM0_D0_P, 131 GND, 132 GND, 133 CAM1_D2_N, 134 CAM0_D1_N, 135 CAM1_D2_P, 136 CAM0_D1_P, 137 GND, 138 GND, 139 CAM1_D3_N, 140 CAM0_C_N, 141 CAM1_D3_P, 142 CAM0_C_P, 143 HDMI1_HOTPLUG, 144 GND, 145 HDMI1_SDA, 146 HDIM1_TX2_P, 147 HDMI1_SCL, 148 HDIM1_TX2_N, 149 HDMI1_CEC, 150 GND, 151 HDMI0_CEC, 152 HDIM1_TX1_P, 153 HDMI0_HOTPLUG, 154 HDIM1_TX1_N, 155 GND, 156 GND, 157 DSIO_DO_N, 158 HDIM1_TX0_P, 159 DSIO_DO_P, 160 HDIM1_TX0_N, 161 GND, 162 GND, 163 DSIO_D1_N, 164 HDIM1_CLK_P, 165 DSIO_D1_P, 166 HDIM1_CLK_N, 167 GND, 168 GND, 169 DSIO_C_N, 170 HDIM0_TX2_P, 171 DSIO_C_P, 172 HDIM0_TX2_N, 173 GND, 174 GND, 175 DSI1_D0_N, 176 HDIM0_TX1_P, 177 DSI1_D0_P, 178 HDIM0_TX1_N, 179 GND, 180 GND, 181 DSI1_D1_N, 182 HDIM0_TX0_P, 183 DSI1_D1_P, 184 HDIM0_TX0_N, 185 GND, 186 GND, 187 DSI1_C_N, 188 HDIM0_CLK_P, 189 DSI1_C_P, 190 HDIM0_CLK_N, 191 GND, 192 GND, 193 DSI1_D2_N, 194 DSI1_D3_N, 195 DSI1_D2_P, 196 DSI1_D3_P, 197 GND, 198 GND, 199 HDIM0_SDA, 200 HDIM0_SCL, 201 HOLE, 202 HOLE, 203 HOLE, 204 HOLE

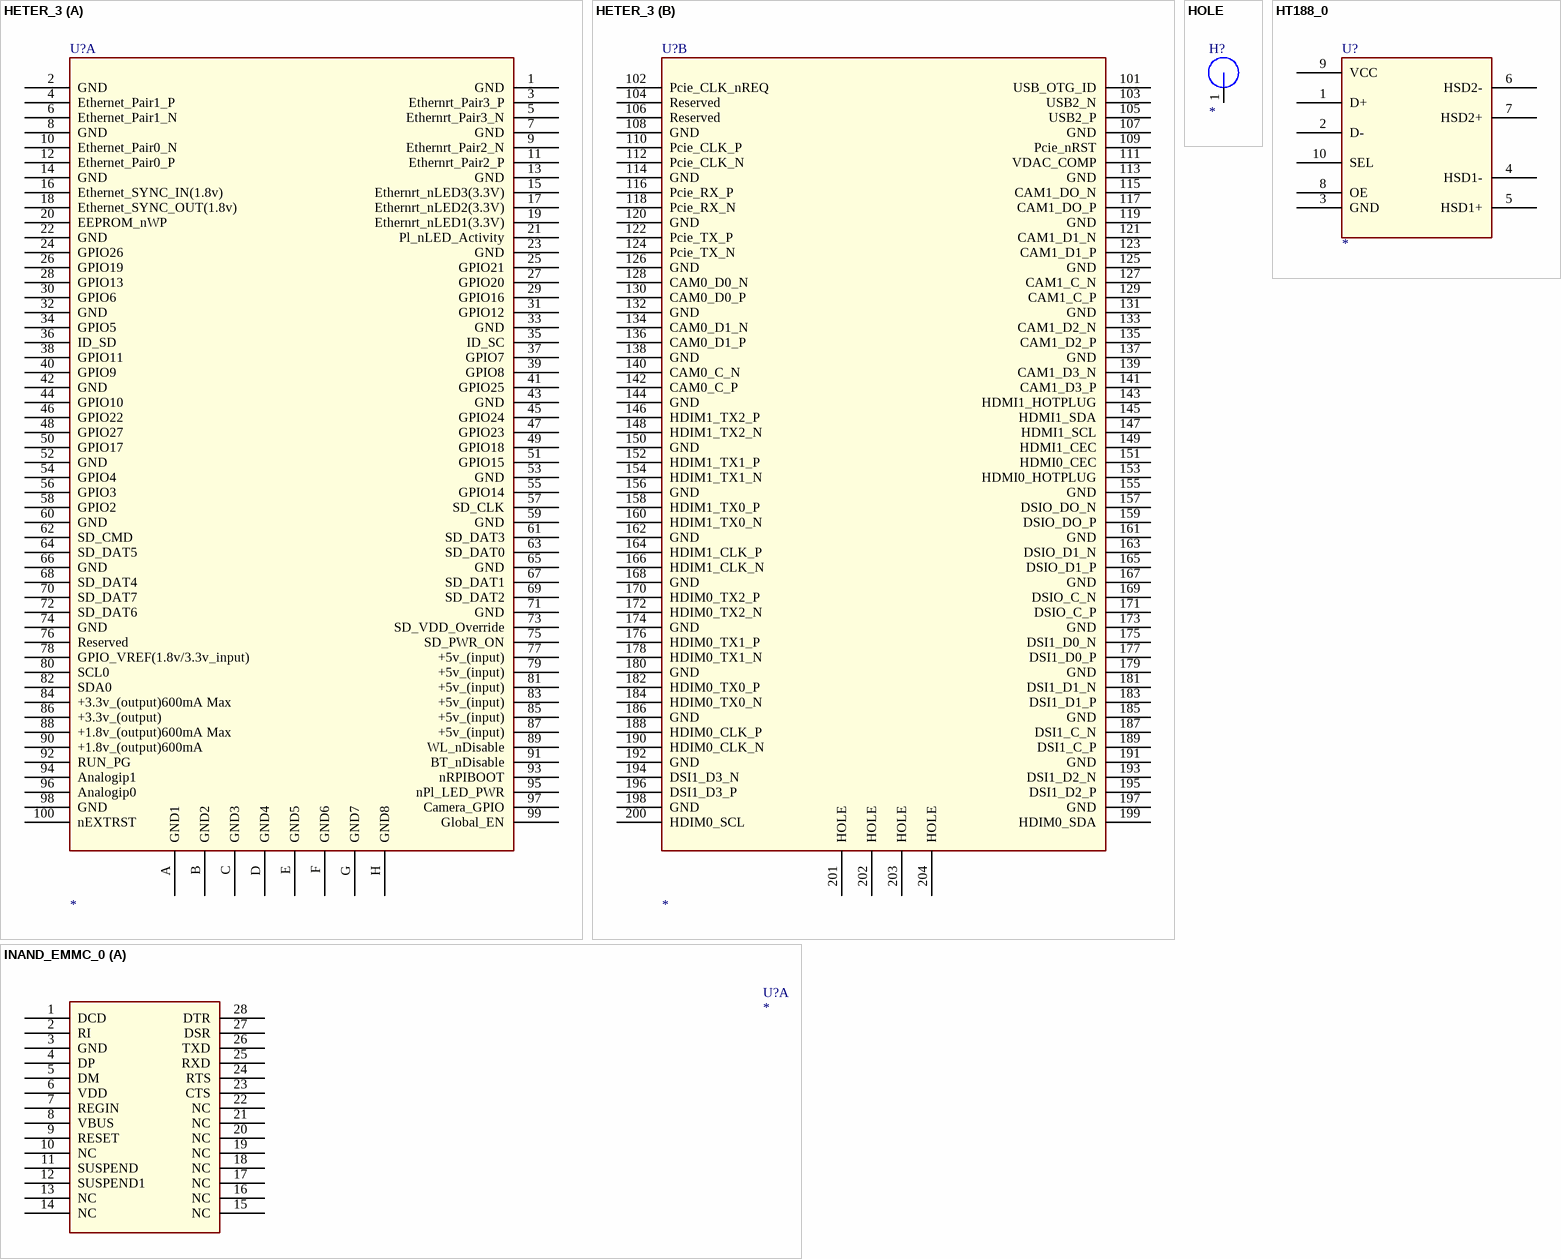
[diagram p11: symbols HETER_3 to INAND_EMMC_0]

## HETER_3
designator U?
part A pins: 1 GND, 2 GND, 3 Ethernrt_Pair3_P, 4 Ethernet_Pair1_P, 5 Ethernrt_Pair3_N, 6 Ethernet_Pair1_N, 7 GND, 8 GND, 9 Ethernrt_Pair2_N, 10 Ethernet_Pair0_N, 11 Ethernrt_Pair2_P, 12 Ethernet_Pair0_P, 13 GND, 14 GND, 15 Ethernrt_nLED3(3.3V), 16 Ethernet_SYNC_IN(1.8v), 17 Ethernrt_nLED2(3.3V), 18 Ethernet_SYNC_OUT(1.8v), 19 Ethernrt_nLED1(3.3V), 20 EEPROM_nWP, 21 Pl_nLED_Activity, 22 GND, 23 GND, 24 GPIO26, 25 GPIO21, 26 GPIO19, 27 GPIO20, 28 GPIO13, 29 GPIO16, 30 GPIO6, 31 GPIO12, 32 GND, 33 GND, 34 GPIO5, 35 ID_SC, 36 ID_SD, 37 GPIO7, 38 GPIO11, 39 GPIO8, 40 GPIO9, 41 GPIO25, 42 GND, 43 GND, 44 GPIO10, 45 GPIO24, 46 GPIO22, 47 GPIO23, 48 GPIO27, 49 GPIO18, 50 GPIO17, 51 GPIO15, 52 GND, 53 GND, 54 GPIO4, 55 GPIO14, 56 GPIO3, 57 SD_CLK, 58 GPIO2, 59 GND, 60 GND, 61 SD_DAT3, 62 SD_CMD, 63 SD_DAT0, 64 SD_DAT5, 65 GND, 66 GND, 67 SD_DAT1, 68 SD_DAT4, 69 SD_DAT2, 70 SD_DAT7, 71 GND, 72 SD_DAT6, 73 SD_VDD_Override, 74 GND, 75 SD_PWR_ON, 76 Reserved, 77 +5v_(input), 78 GPIO_VREF(1.8v/3.3v_input), 79 +5v_(input), 80 SCL0, 81 +5v_(input), 82 SDA0, 83 +5v_(input), 84 +3.3v_(output)600mA Max, 85 +5v_(input), 86 +3.3v_(output), 87 +5v_(input), 88 +1.8v_(output)600mA Max, 89 WL_nDisable, 90 +1.8v_(output)600mA , 91 BT_nDisable, 92 RUN_PG, 93 nRPIBOOT, 94 Analogip1, 95 nPl_LED_PWR, 96 Analogip0, 97 Camera_GPIO, 98 GND, 99 Global_EN, 100 nEXTRST, A GND1, B GND2, C GND3, D GND4, E GND5, F GND6, G GND7, H GND8
part B pins: 101 USB_OTG_ID, 102 Pcie_CLK_nREQ, 103 USB2_N, 104 Reserved, 105 USB2_P, 106 Reserved, 107 GND, 108 GND, 109 Pcie_nRST, 110 Pcie_CLK_P, 111 VDAC_COMP, 112 Pcie_CLK_N, 113 GND, 114 GND, 115 CAM1_DO_N, 116 Pcie_RX_P, 117 CAM1_DO_P, 118 Pcie_RX_N, 119 GND, 120 GND, 121 CAM1_D1_N, 122 Pcie_TX_P, 123 CAM1_D1_P, 124 Pcie_TX_N, 125 GND, 126 GND, 127 CAM1_C_N, 128 CAM0_D0_N, 129 CAM1_C_P, 130 CAM0_D0_P, 131 GND, 132 GND, 133 CAM1_D2_N, 134 CAM0_D1_N, 135 CAM1_D2_P, 136 CAM0_D1_P, 137 GND, 138 GND, 139 CAM1_D3_N, 140 CAM0_C_N, 141 CAM1_D3_P, 142 CAM0_C_P, 143 HDMI1_HOTPLUG, 144 GND, 145 HDMI1_SDA, 146 HDIM1_TX2_P, 147 HDMI1_SCL, 148 HDIM1_TX2_N, 149 HDMI1_CEC, 150 GND, 151 HDMI0_CEC, 152 HDIM1_TX1_P, 153 HDMI0_HOTPLUG, 154 HDIM1_TX1_N, 155 GND, 156 GND, 157 DSIO_DO_N, 158 HDIM1_TX0_P, 159 DSIO_DO_P, 160 HDIM1_TX0_N, 161 GND, 162 GND, 163 DSIO_D1_N, 164 HDIM1_CLK_P, 165 DSIO_D1_P, 166 HDIM1_CLK_N, 167 GND, 168 GND, 169 DSIO_C_N, 170 HDIM0_TX2_P, 171 DSIO_C_P, 172 HDIM0_TX2_N, 173 GND, 174 GND, 175 DSI1_D0_N, 176 HDIM0_TX1_P, 177 DSI1_D0_P, 178 HDIM0_TX1_N, 179 GND, 180 GND, 181 DSI1_D1_N, 182 HDIM0_TX0_P, 183 DSI1_D1_P, 184 HDIM0_TX0_N, 185 GND, 186 GND, 187 DSI1_C_N, 188 HDIM0_CLK_P, 189 DSI1_C_P, 190 HDIM0_CLK_N, 191 GND, 192 GND, 193 DSI1_D2_N, 194 DSI1_D3_N, 195 DSI1_D2_P, 196 DSI1_D3_P, 197 GND, 198 GND, 199 HDIM0_SDA, 200 HDIM0_SCL, 201 HOLE, 202 HOLE, 203 HOLE, 204 HOLE

## HOLE
designator H?
footprint H3.8MM
pins: 1

## HT188_0
designator U?
pins: 1 D+, 2 D-, 3 GND, 4 HSD1-, 5 HSD1+, 6 HSD2-, 7 HSD2+, 8 OE, 9 VCC, 10 SEL

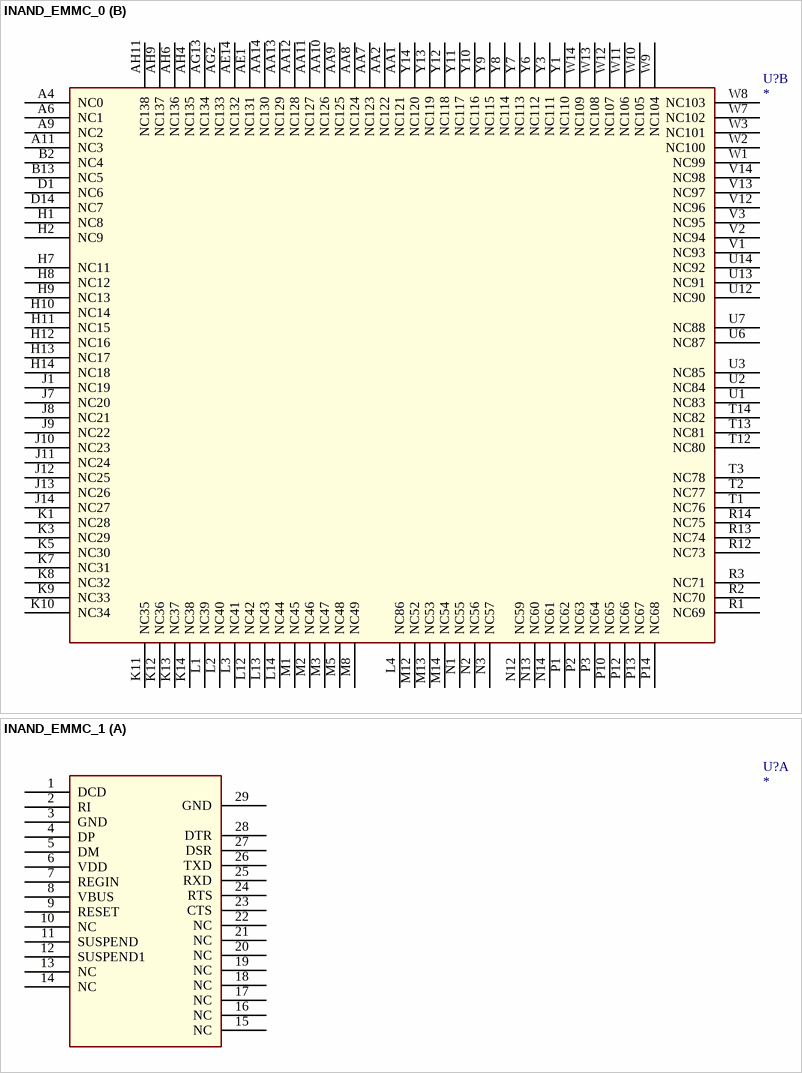
[diagram p12: symbols INAND_EMMC_0 to INAND_EMMC_1]

## INAND_EMMC_0
designator U?
part A pins: 1 DCD, 2 RI, 3 GND, 4 DP, 5 DM, 6 VDD, 7 REGIN, 8 VBUS, 9 RESET, 10 NC, 11 SUSPEND, 12 SUSPEND1, 13 NC, 14 NC, 15 NC, 16 NC, 17 NC, 18 NC, 19 NC, 20 NC, 21 NC, 22 NC, 23 CTS, 24 RTS, 25 RXD, 26 TXD, 27 DSR, 28 DTR
part B pins: A4 NC0, A6 NC1, A9 NC2, A11 NC3, AA1 NC121, AA2 NC122, AA7 NC123, AA8 NC124, AA9 NC125, AA10 NC126, AA11 NC127, AA12 NC128, AA13 NC129, AA14 NC130, AE1 NC131, AE14 NC132, AG2 NC133, AG13 NC134, AH4 NC135, AH6 NC136, AH9 NC137, AH11 NC138, B2 NC4, B13 NC5, D1 NC6, D14 NC7, H1 NC8, H2 NC9, H7 NC11, H8 NC12, H9 NC13, H10 NC14, H11 NC15, H12 NC16, H13 NC17, H14 NC18, J1 NC19, J7 NC20, J8 NC21, J9 NC22, J10 NC23, J11 NC24, J12 NC25, J13 NC26, J14 NC27, K1 NC28, K3 NC29, K5 NC30, K7 NC31, K8 NC32, K9 NC33, K10 NC34, K11 NC35, K12 NC36, K13 NC37, K14 NC38, L1 NC39, L2 NC40, L3 NC41, L4 NC86, L12 NC42, L13 NC43, L14 NC44, M1 NC45, M2 NC46, M3 NC47, M5 NC48, M8 NC49, M12 NC52, M13 NC53, M14 NC54, N1 NC55, N2 NC56, N3 NC57, N12 NC59, N13 NC60, N14 NC61, P1 NC62, P2 NC63, P3 NC64, P10 NC65, P12 NC66, P13 NC67, P14 NC68, R1 NC69, R2 NC70, R3 NC71, R12 NC73, R13 NC74, R14 NC75, T1 NC76, T2 NC77, T3 NC78, T12 NC80, T13 NC81, T14 NC82, U1 NC83, U2 NC84, U3 NC85, U6 NC87, U7 NC88, U12 NC90, U13 NC91, U14 NC92, V1 NC93, V2 NC94, V3 NC95, V12 NC96, V13 NC97, V14 NC98, W1 NC99, W2 NC100, W3 NC101, W7 NC102, W8 NC103, W9 NC104, W10 NC105, W11 NC106, W12 NC107, W13 NC108, W14 NC109, Y1 NC110, Y3 NC111, Y6 NC112, Y7 NC113, Y8 NC114, Y9 NC115, Y10 NC116, Y11 NC117, Y12 NC118, Y13 NC119, Y14 NC120

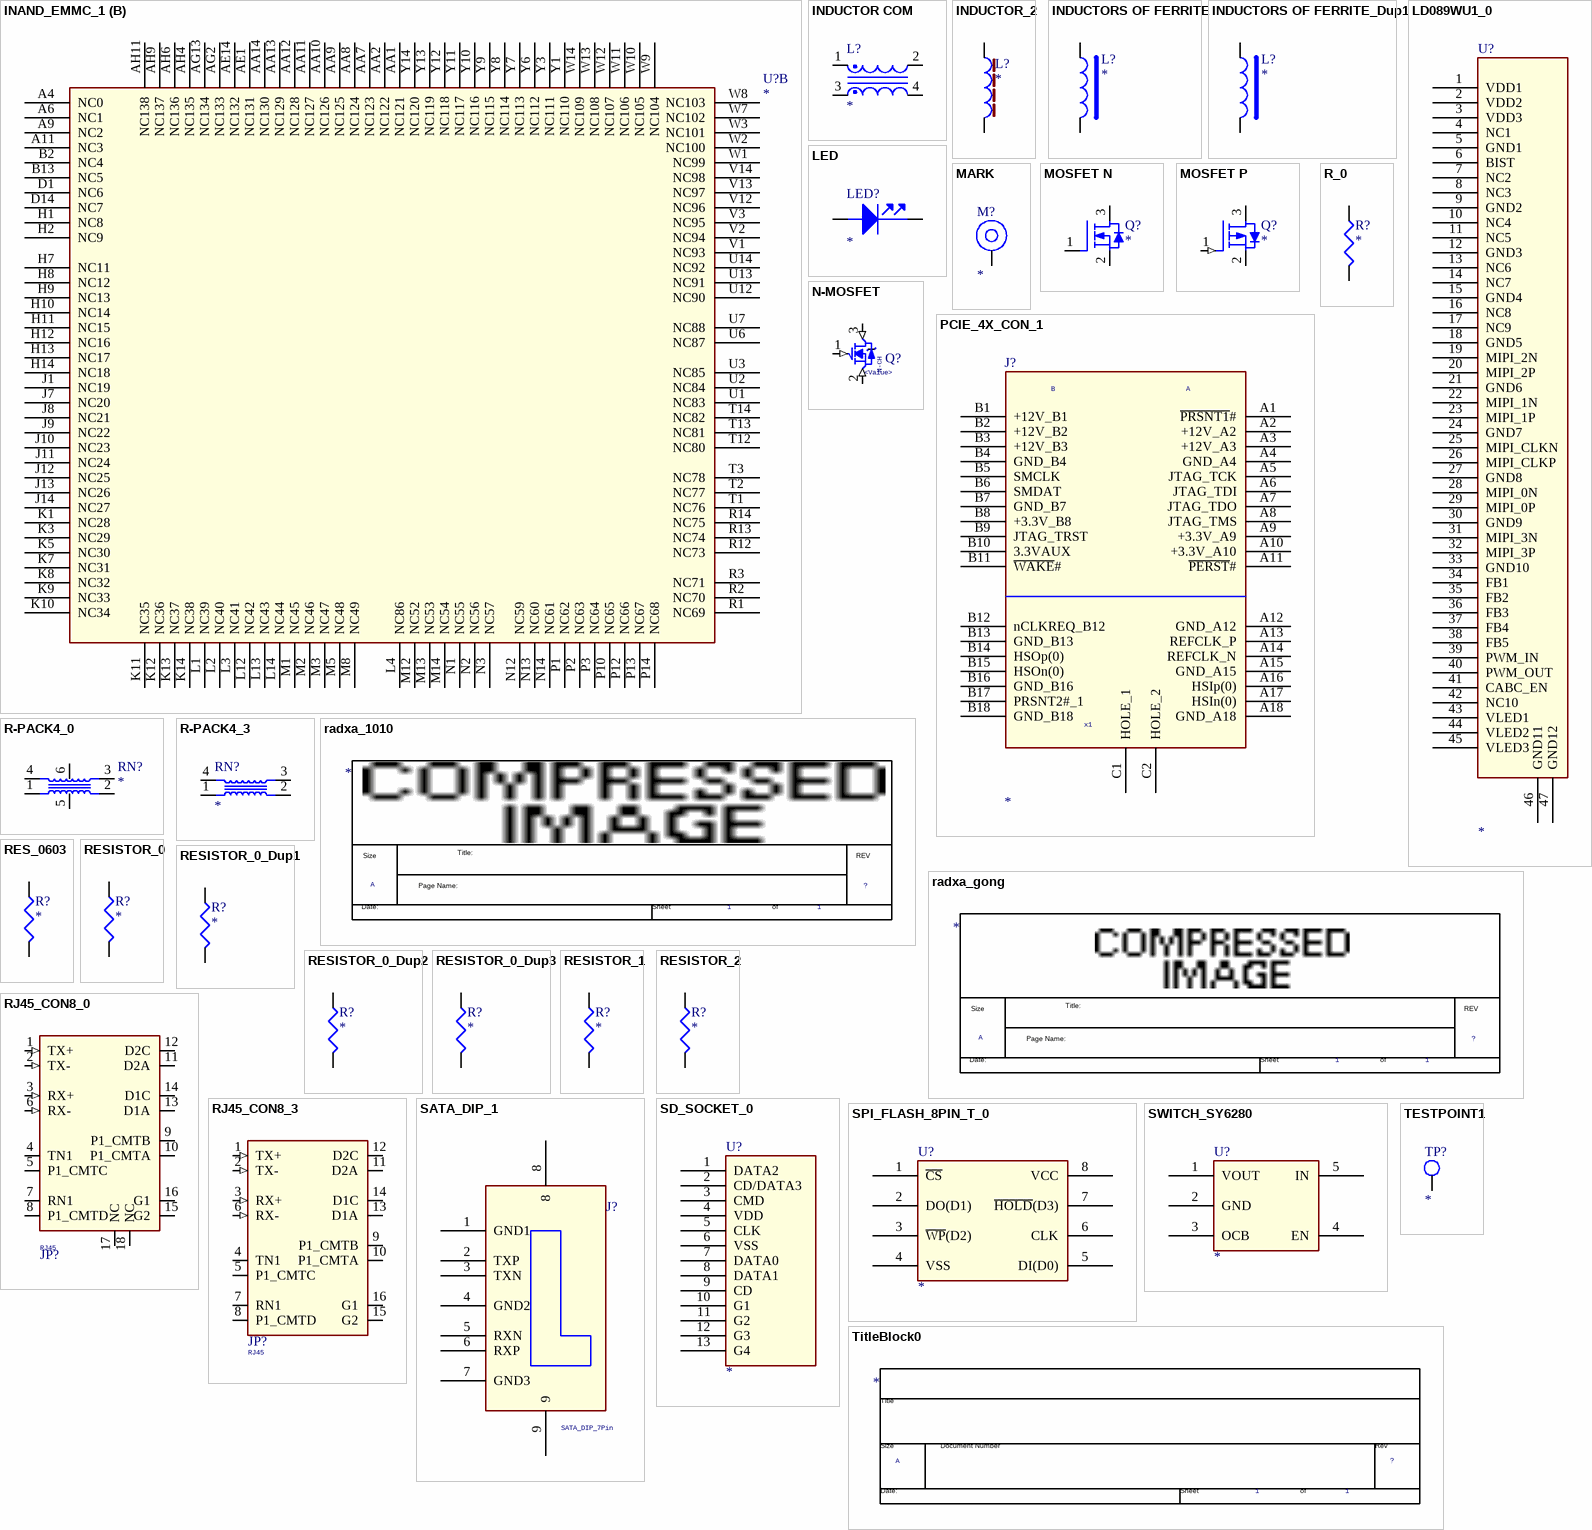
[diagram p13: symbols INAND_EMMC_1 to TitleBlock0]